# Altium schematic symbol library SoM_Artix.SchLib: 261 symbols (part 1 of 2)
Pins are listed as number, name and electrical type; pins without a type are passive.

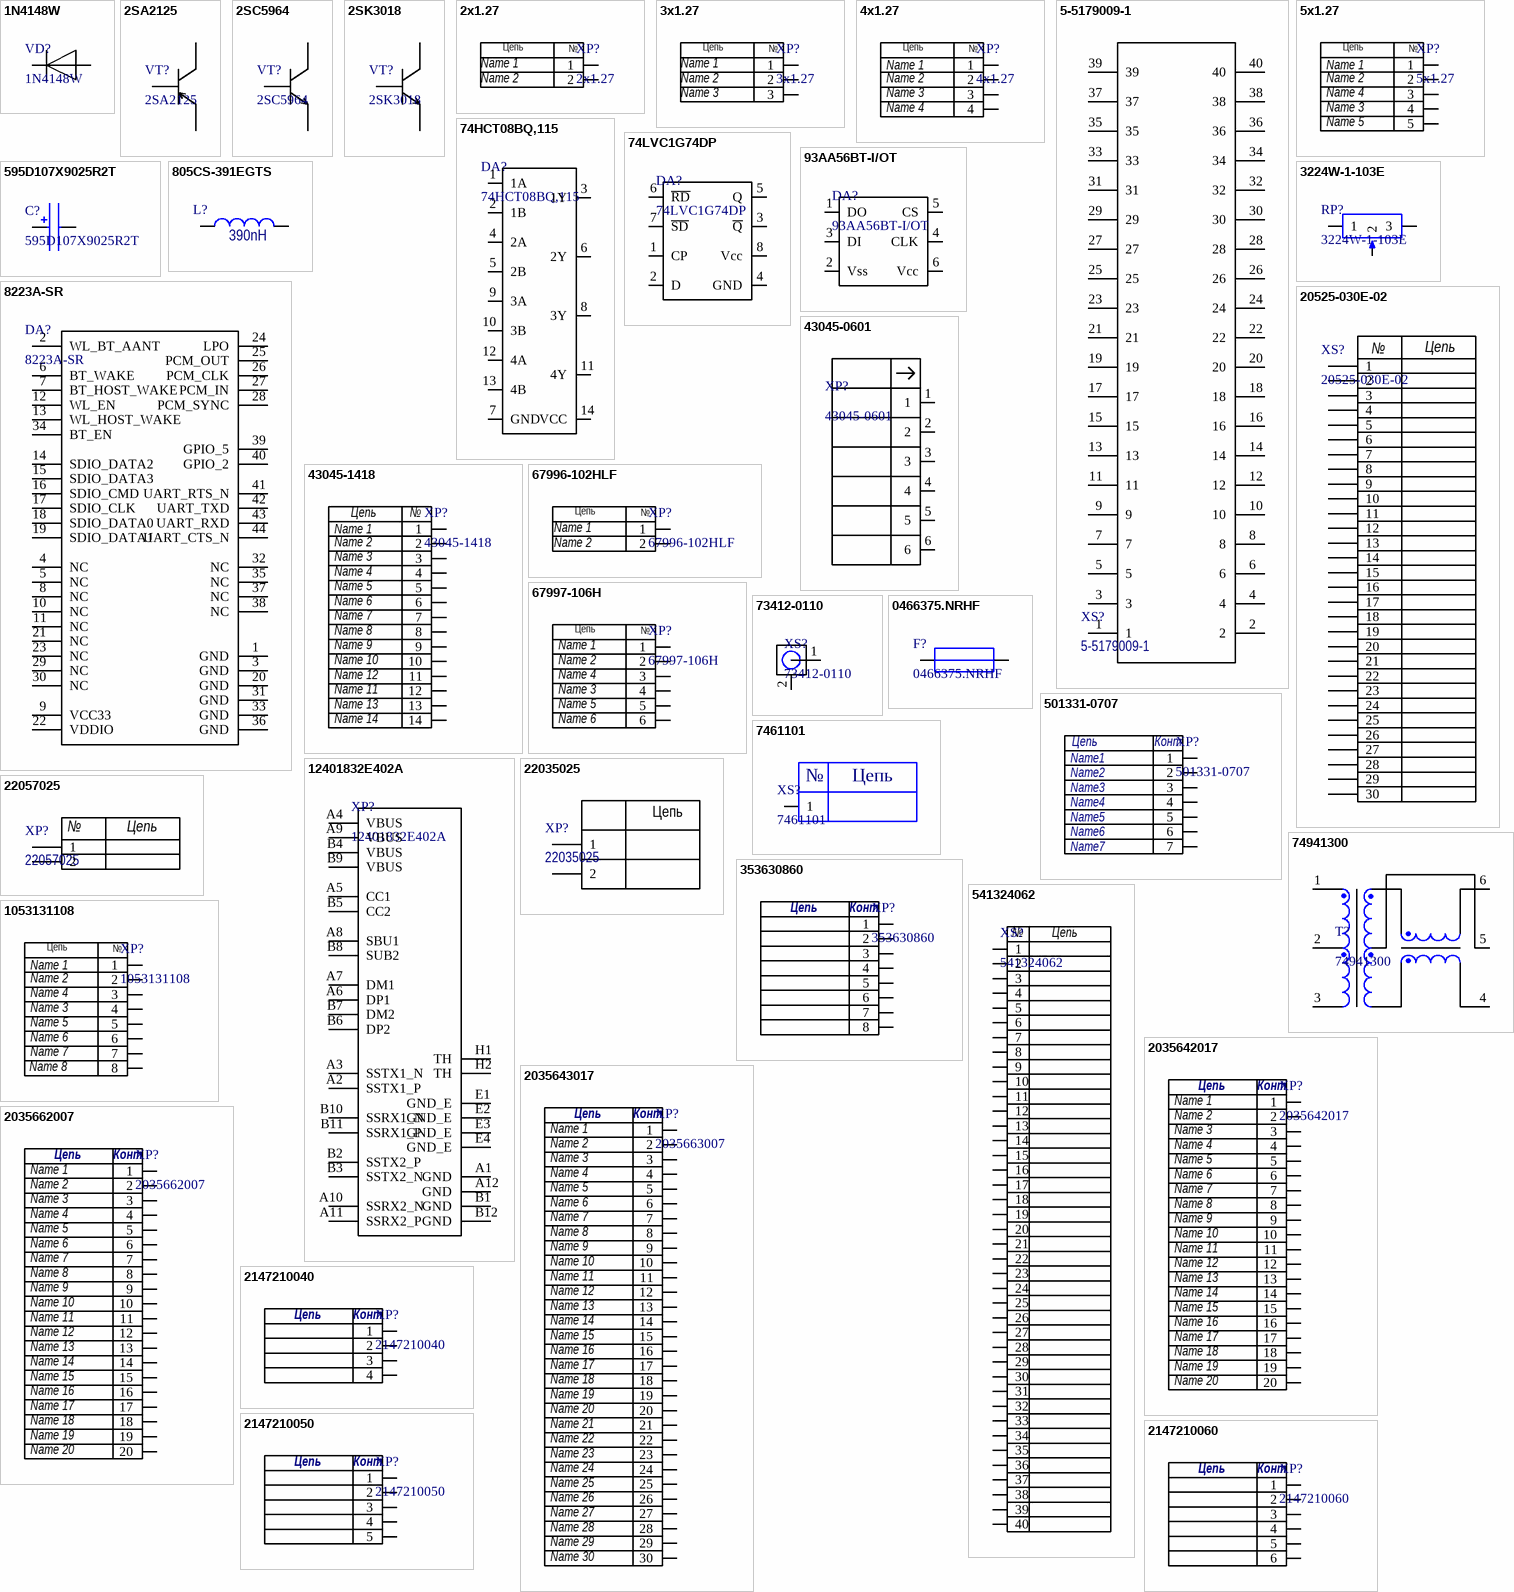
[diagram p0: symbols 1N4148W to 2147210060]

## 1N4148W
designator VD?
75V 400mW Single 1V@50mA 4ns 150mA SOD-123 Switching Diode
footprint SOD-123
pins: A, K

## 2SA2125
designator VT?
Bipolar Transistors - BJT DC-DC CONVERTER
footprint SOT-89-3
pins: 1 B, 2 C, 3 E

## 2SC5964
designator VT?
Bipolar Transistors - BJT Bipolar Transistor, (-)50V, (-)3A, Low VCE(sat), (PNP)NPN Single PCP
footprint SOT-89-3
pins: 1 B, 2 C, 3 E

## 2SK3018
designator VT?
Bipolar Transistors - BJT Bipolar Transistor, (-)50V, (-)3A, Low VCE(sat), (PNP)NPN Single PCP
footprint SOT-323
pins: 1 B, 2 E, 3 C

## 2x1.27
designator XP?  Parameter 1: Name 1  Parameter 2: Name 2
footprint 2X1.27
pins: 1, 2
text: Цепь; №

## 3x1.27
designator XP?  Parameter 1: Name 1  Parameter 2: Name 2  Parameter 3: Name 3
footprint 3X1.27
pins: 1, 2, 3
text: Цепь; №

## 4x1.27
designator XP?  Parameter 4: Name 4  Parameter 3: Name 3  Parameter 2: Name 2  Parameter 1: Name 1
footprint 4X1.27
pins: 1, 2, 3, 4
text: Цепь; №

## 5-5179009-1
designator XS?
Board to Board & Mezzanine Connectors 40P 9mm RECEPTACLE STACK HEIGHT 9-12mm
footprint 5-5179009-1
pins: 1, 2, 3, 4, 5, 6, 7, 8, 9, 10, 11, 12, 13, 14, 15, 16, 17, 18, 19, 20, 21, 22, 23, 24, 25, 26, 27, 28, 29, 30, 31, 32, 33, 34, 35, 36, 37, 38, 39, 40

## 5x1.27
designator XP?  Parameter 5: Name 5  Parameter 3: Name 3  Parameter 4: Name 4  Parameter 2: Name 2  Parameter 1: Name 1
footprint 5X1.27
pins: 1, 2, 3, 4, 5
text: Цепь; №

## 74HCT08BQ,115
designator DA?
The 74HC08; 74HCT08 is a quad 2-input AND gate. Inputs include clamp diodes. This enables the / use of current limiting resistors to interface inputs to voltages in excess of VCC.
footprint DHVQFN14
pins: 1 1A, 2 1B, 3 1Y, 4 2A, 5 2B, 6 2Y, 7 GND, 8 3Y, 9 3A, 10 3B, 11 4Y, 12 4A, 13 4B, 14 VCC

## 74LVC1G74DP
designator DA?
IC FF D-TYPE SNGL 1BIT 8TSSOP
footprint TSOP8 (SOT505-2)
pins: 1 CP, 2 D, 3 ~{Q}, 4 GND, 5 Q, 6 ~{RD}, 7 ~{SD}, 8 Vcc

## 93AA56BT-I/OT
designator DA?
IC EEPROM 2KBIT MIC WIRE SOT23-6
footprint SOT-23-6
pins: 1 DO, 2 Vss, 3 DI, 4 CLK, 5 CS, 6 Vcc

## 595D107X9025R2T
designator C?
100 µF Conformal Coated Tantalum Capacitors 25 V 2824 (7260 Metric) 200mOhm
footprint 595D107X9025R2T
pins: 1, 2

## 805CS-391EGTS
designator L?  value 390nH  (hidden comment: 805CS-391EGTS)
FIXED IND 390NH 290MA 1.5OHM SMD
footprint 0805CS-391EGTS
pins: 1, 2

## 3224W-1-103E
designator RP?
Trimmer Resistors - SMD 4mm 10Kohms 10% Square Cermet Sealed
footprint 3224W-1-103E
pins: 1, 2, 3

## 8223A-SR
designator DA?
IEEE 802.11a/b/g/n/ac WLAN with  Bluetooth 5 Combo Stamp Module
footprint AW-CM358SM
pins: 1 GND, 2 WL_BT_AANT, 3 GND, 4 NC, 5 NC, 6 BT_WAKE, 7 BT_HOST_WAKE, 8 NC, 9 VCC33, 10 NC, 11 NC, 12 WL_EN, 13 WL_HOST_WAKE, 14 SDIO_DATA2, 15 SDIO_DATA3, 16 SDIO_CMD, 17 SDIO_CLK, 18 SDIO_DATA0, 19 SDIO_DATA1, 20 GND, 21 NC, 22 VDDIO, 23 NC, 24 LPO, 25 PCM_OUT, 26 PCM_CLK, 27 PCM_IN, 28 PCM_SYNC, 29 NC, 30 NC, 31 GND, 32 NC, 33 GND, 34 BT_EN, 35 NC, 36 GND, 37 NC, 38 NC, 39 GPIO_5, 40 GPIO_2, 41 UART_RTS_N, 42 UART_TXD, 43 UART_RXD, 44 UART_CTS_N

## 20525-030E-02
designator XS?
0.4 mm pitch, Horizontal mating type Micro-coaxial connector with mechanical lock
footprint 20525-030E-02 (I-PEX)
pins: 1, 2, 3, 4, 5, 6, 7, 8, 9, 10, 11, 12, 13, 14, 15, 16, 17, 18, 19, 20, 21, 22, 23, 24, 25, 26, 27, 28, 29, 30
text: Цепь; №

## 43045-0601
designator XP?
CONN HEADER 6POS 2 ROWS 3MM R/A TIN
footprint 43045-0601
pins: 1, 2, 3, 4, 5, 6

## 43045-1418
designator XP?  Parameter 14: Name 14  Parameter 13: Name 13  Parameter 11: Name 11  Parameter 12: Name 12  Parameter 10: Name 10  Parameter 9: Name 9  Parameter 8: Name 8  Parameter 7: Name 7  Parameter 6: Name 6  Parameter 5: Name 5  Parameter 4: Name 4  Parameter 3: Name 3  Parameter 2: Name 2  Parameter 1: Name 1
Micro-Fit 3.0 Vertical Header, 3.00mm Pitch, Dual Row, 14 Circuits, with Solder Tab, Tin, Glow-Wire Capable, Black, Tape and Reel
footprint 43045-1418
pins: 1, 2, 3, 4, 5, 6, 7, 8, 9, 10, 11, 12, 13, 14
text: Цепь; №

## 67996-102HLF
designator XP?
Board to Board connector, Unshrouded vertical header, Through Hole, Double Row, 2 Positions, 2.54 mm (0.100in) Pitch; Name 2: Name 2; Name 1: Name 1
footprint 2X2.54
pins: 1, 2
text: Цепь; №

## 67997-106H
designator XP?  Parameter 6: Name 6  Parameter 5: Name 5  Parameter 3: Name 3  Parameter 4: Name 4  Parameter 2: Name 2  Parameter 1: Name 1
CONN HEADER VERT 6POS 2.54MM
footprint 67997-106H
pins: 1, 2, 3, 4, 5, 6
text: Цепь; №

## 73412-0110
designator XS?
50 Ohms, MCRF, PCB Vertical Jack Receptacle, SMT, 1.25mm Mounted Height
footprint 73412-0110 (Connector pigtail)
pins: 1, 2

## 0466375.NRHF
designator F?
466 Series 1206 Fast-Acting Fuse
footprint FUSE 1206
pins: 1, 2

## 501331-0707
designator XP?  Parameter 7: Name7  Parameter 6: Name6  Parameter 5: Name5  Parameter 4: Name4  Parameter 3: Name3  Parameter 2: Name2  Parameter 1: Name1
Headers & Wire Housings 1.0 WtB 7Ckt StrWaferAssyEmbsTpPk
footprint 501331-0707 (Headers & Wire Housings 1.0 WtB 7Ckt StrWaferAssyEmbsTpPk)
pins: 1, 2, 3, 4, 5, 6, 7
text: Цепь; Конт.

## 7461101
designator XS?
Terminals WP-RATR Pn-Plt 90Deg 6Pin 2Rw1.6Dia 100A
footprint КОНТАКТ 7461101
pins: 1
text: №; Цепь

## 12401832E402A
designator XP?
Surface Mount 24 Female Type-C SMD USB Connector
footprint USB-C
pins: A1 GND, A2 SSTX1_P, A3 SSTX1_N, A4 VBUS, A5 CC1, A6 DP1, A7 DM1, A8 SBU1, A9 VBUS, A10 SSRX2_N, A11 SSRX2_P, A12 GND, B1 GND, B2 SSTX2_P, B3 SSTX2_N, B4 VBUS, B5 CC2, B6 DP2, B7 DM2, B8 SUB2, B9 VBUS, B10 SSRX1_N, B11 SSRX1_P, B12 GND, E1 GND_E, E2 GND_E, E3 GND_E, E4 GND_E, H1 TH, H2 TH

## 22035025
designator XP?
2.50mm Pitch, Mini-SPOX PCB Header, Single Row, Vertical, Through Hole, Tin Plating, 2 Circuits, Bag, 3.50mm PC Tail Length
footprint 22035025 (2.50mm Pitch, Mini-SPOX PCB Header)
pins: 1, 2
text: Цепь

## 22057025
designator XP?
2.50mm Pitch, Mini-SPOX PCB Header, Single Row, Right-Angle, Through Hole, Tin Plating, 2 Circuits, Bag, 3.50mm PC Tail Length
footprint 22057025
pins: 1, 2
text: №; Цепь

## 74941300
designator T?
WE-BMS SMT TRANSFORMER -40C TO +
footprint 74941300
pins: 1, 2, 3, 4, 5, 6

## 353630860
designator XP?
2.00mm Pitch Sherlock Wire-to-Board Header, Right-Angle, with Positive Lock, 8 Circuits
footprint 353630860
pins: 1, 2, 3, 4, 5, 6, 7, 8
text: Цепь; Конт

## 541324062
designator XS?
Easy-On FFC/FPC Connector, 0.50mm Pitch, Slider Series, Right-Angle, Bottom Contact, 2.00mm Height, 40 Circuits, Gold Plating
footprint 541324062
pins: 1, 2, 3, 4, 5, 6, 7, 8, 9, 10, 11, 12, 13, 14, 15, 16, 17, 18, 19, 20, 21, 22, 23, 24, 25, 26, 27, 28, 29, 30, 31, 32, 33, 34, 35, 36, 37, 38, 39, 40
text: №; Цепь

## 1053131108
designator XP?  Parameter 6: Name 6  Parameter 7: Name 7  Parameter 8: Name 8  Parameter 5: Name 5  Parameter 3: Name 3  Parameter 4: Name 4  Parameter 2: Name 2  Parameter 1: Name 1
CONN HEADER R/A 8POS 2.5MM
footprint 1053131108
pins: 1, 2, 3, 4, 5, 6, 7, 8
text: Цепь; №

## 2035642017
designator XP?  Parameter 20: Name 20  Parameter 19: Name 19  Parameter 18: Name 18  Parameter 17: Name 17  Parameter 16: Name 16  Parameter 14: Name 15  Parameter 15: Name 14  Parameter 13: Name 13  Parameter 12: Name 12  Parameter 11: Name 11  Parameter 10: Name 10  Parameter 9: Name 9  Parameter 8: Name 8  Parameter 7: Name 7  Parameter 6: Name 6  Parameter 5: Name 5  Parameter 4: Name 4  Parameter 3: Name 3  Parameter 2: Name 2  Parameter 1: Name 1
1.00mm Pitch, Pico-Clasp PCB Header, Dual Row, Vertical, Surface Mount, 0.38µm Gold Plated, Inner Positive Lock, with Pick-and-Place Tape, 20 Circuits, Natural
footprint 2035642017 (1.00mm Pitch, Pico-Clasp PCB Header, Dual Row, Right-Angle, Surface Mount, 0.38µm Gold Plated, Inner Positive Lock, 20 Circuits, Natural)
pins: 1, 2, 3, 4, 5, 6, 7, 8, 9, 10, 11, 12, 13, 14, 15, 16, 17, 18, 19, 20
text: Цепь; Конт

## 2035643017
designator XP?, comment 2035663007  Parameter 21: Name 21  Parameter 22: Name 22  Parameter 23: Name 23  Parameter 24: Name 24  Parameter 25: Name 25  Parameter 26: Name 26  Parameter 27: Name 27  Parameter 28: Name 28  Parameter 29: Name 29  Parameter 30: Name 30  Parameter 20: Name 20  Parameter 19: Name 19  Parameter 18: Name 18  Parameter 17: Name 17  Parameter 16: Name 16  Parameter 14: Name 15  Parameter 15: Name 14  Parameter 13: Name 13  Parameter 12: Name 12  Parameter 11: Name 11  Parameter 10: Name 10  Parameter 9: Name 9  Parameter 8: Name 8  Parameter 7: Name 7  Parameter 6: Name 6  Parameter 5: Name 5  Parameter 4: Name 4  Parameter 3: Name 3  Parameter 2: Name 2  Parameter 1: Name 1
1.00mm Pitch, Pico-Clasp PCB Header, Dual Row, Right-Angle, Surface Mount, 0.38µm Gold Plated, Inner Positive Lock, 30 Circuits, Natural
footprint 2035663007
pins: 1, 2, 3, 4, 5, 6, 7, 8, 9, 10, 11, 12, 13, 14, 15, 16, 17, 18, 19, 20, 21, 22, 23, 24, 25, 26, 27, 28, 29, 30
text: Цепь; Конт

## 2035662007
designator XP?  Parameter 20: Name 20  Parameter 19: Name 19  Parameter 18: Name 18  Parameter 17: Name 17  Parameter 16: Name 16  Parameter 14: Name 15  Parameter 15: Name 14  Parameter 13: Name 13  Parameter 12: Name 12  Parameter 11: Name 11  Parameter 10: Name 10  Parameter 9: Name 9  Parameter 8: Name 8  Parameter 7: Name 7  Parameter 6: Name 6  Parameter 5: Name 5  Parameter 4: Name 4  Parameter 3: Name 3  Parameter 2: Name 2  Parameter 1: Name 1
1.00mm Pitch, Pico-Clasp PCB Header, Dual Row, Right-Angle, Surface Mount, 0.38µm Gold Plated, Inner Positive Lock, 20 Circuits, Natural
footprint 2035662007 (1.00mm Pitch, Pico-Clasp PCB Header, Dual Row, Right-Angle, Surface Mount, 0.38µm Gold Plated, Inner Positive Lock, 20 Circuits, Natural)
pins: 1, 2, 3, 4, 5, 6, 7, 8, 9, 10, 11, 12, 13, 14, 15, 16, 17, 18, 19, 20
text: Цепь; Конт

## 2147210040
designator XP?
Zero-Hachi Header, 0.80mm Pitch, Single Row, Right-Angle, Surface Mount, Matte Tin (Sn) Plating, Friction Lock, 4 Circuits
footprint 2147210040
pins: 1, 2, 3, 4
text: Цепь; Конт

## 2147210050
designator XP?
Zero-Hachi Header, 0.80mm Pitch, Single Row, Right-Angle, Surface Mount, Matte Tin (Sn) Plating, Friction Lock, 5 Circuits
footprint 2147210050
pins: 1, 2, 3, 4, 5
text: Цепь; Конт

## 2147210060
designator XP?
Zero-Hachi Header, 0.80mm Pitch, Single Row, Right-Angle, Surface Mount, Matte Tin (Sn) Plating, Friction Lock, 6 Circuits
footprint 2147210060
pins: 1, 2, 3, 4, 5, 6
text: Цепь; Конт

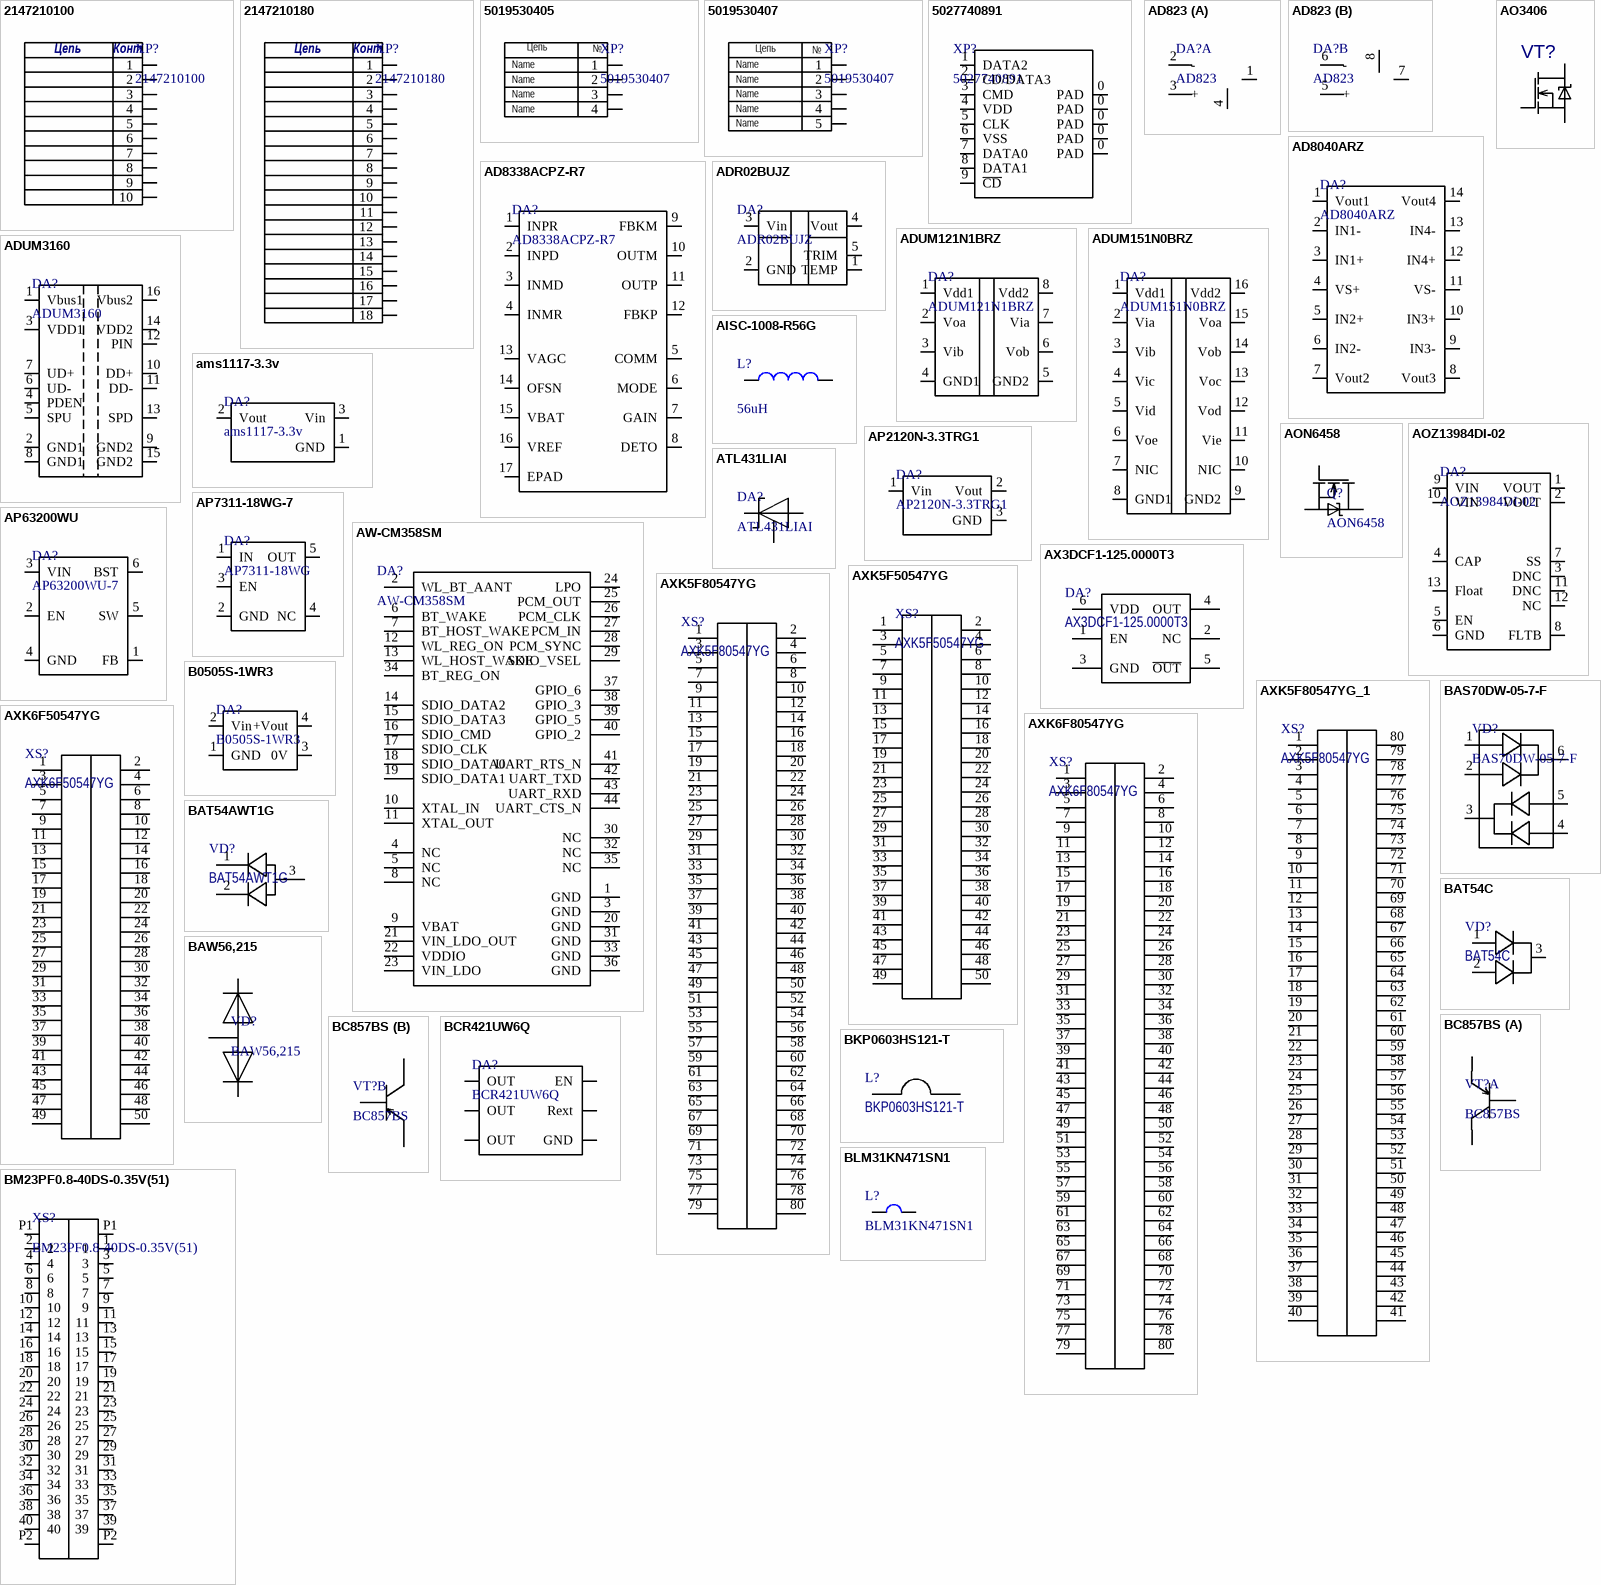
[diagram p1: symbols 2147210100 to BM23PF0.8-40DS-0.35V(51)]

## 2147210100
designator XP?
Zero-Hachi Header, 0.80mm Pitch, Single Row, Right-Angle, Surface Mount, Matte Tin (Sn) Plating, Friction Lock, 10 Circuits
footprint 2147210100
pins: 1, 2, 3, 4, 5, 6, 7, 8, 9, 10
text: Цепь; Конт

## 2147210180
designator XP?
Zero-Hachi Header, 0.80mm Pitch, Single Row, Right-Angle, Surface Mount, Matte Tin (Sn) Plating, Friction Lock, 18 Circuits
footprint 2147210180
pins: 1, 2, 3, 4, 5, 6, 7, 8, 9, 10, 11, 12, 13, 14, 15, 16, 17, 18
text: Цепь; Конт

## 5019530405
designator XP?, comment 5019530407  Parameter 4: Name
1.00mm Pitch, Pico-Clasp PCB Header, Single Row, Right-Angle, Surface Mount, 1.01µm Tin Plated, Outer Positive Lock, 4 Circuits, Natural; Parameter 3: Name; Parameter 2: Name; Parameter 1: Name
footprint 5019530405
pins: 1, 2, 3, 4
text: Цепь; №

## 5019530407
designator XP?  Parameter 5: Name
1.00mm Pitch, Pico-Clasp PCB Header, Single Row, Right-Angle, Surface Mount, 1.01µm Tin Plated, Outer Positive Lock, 5 Circuits, Natural; Parameter 4: Name; Parameter 3: Name; Parameter 2: Name; Parameter 1: Name
footprint 5019530505
pins: 1, 2, 3, 4, 5
text: Цепь; №

## 5027740891
designator XP?
microSD Memory Card Connector
footprint 5027740891
pins: 0 PAD, 0 PAD, 0 PAD, 0 PAD, 0 PAD, 1 DATA2, 2 CD/DATA3, 3 CMD, 4 VDD, 5 CLK, 6 VSS, 7 DATA0, 8 DATA1, 9 ~{CD}

## AD823
designator DA?
Dual, 16 MHz, Rail-to-Rail FET Input Amplifier
footprint SOIC-8 (6x5x1.75 mm)
part A pins: 1 OUT, 2 -, 3 +, 4 -Vs
part B pins: 5 +, 6 -, 7 OUT, 8 +Vs

## AD8040ARZ
designator DA?
High Speed Operational Amplifiers Quad Low Power R-R I/O Amp.
footprint SOIC-14
pins: 1 Vout1, 2 IN1-, 3 IN1+, 4 VS+, 5 IN2+, 6 IN2-, 7 Vout2, 8 Vout3, 9 IN3-, 10 IN3+, 11 VS-, 12 IN4+, 13 IN4-, 14 Vout4

## AD8338ACPZ-R7
designator DA?
IC VARIABLE GAIN 1 CIRC 16LFCSP
footprint AD8338ACPZ-R7
pins: 1 INPR, 2 INPD, 3 INMD, 4 INMR, 5 COMM, 6 MODE, 7 GAIN, 8 DETO, 9 FBKM, 10 OUTM, 11 OUTP, 12 FBKP, 13 VAGC, 14 OFSN, 15 VBAT, 16 VREF, 17 EPAD

## ADR02BUJZ
designator DA?
Series Voltage Reference IC Fixed 5V V ±0.06% 10 mA TSOT-23-5
footprint SOT-23-5
pins: 1 TEMP, 2 GND, 3 Vin, 4 Vout, 5 TRIM

## ADUM121N1BRZ
designator DA?
Dual-Channel Digital Isolators
footprint SOIC-8 (6x5x1.75 mm)
pins: 1 Vdd1, 2 Voa, 3 Vib, 4 GND1, 5 GND2, 6 Vob, 7 Via, 8 Vdd2

## ADUM151N0BRZ
designator DA?
3.0 kV RMS 5-Channel Digital Isolators
footprint SOIC-16Ti
pins: 1 Vdd1, 2 Via, 3 Vib, 4 Vic, 5 Vid, 6 Voe, 7 NIC, 8 GND1, 9 GND2, 10 NIC, 11 Vie, 12 Vod, 13 Voc, 14 Vob, 15 Voa, 16 Vdd2

## ADUM3160
designator DA?
Full/Low Speed 2.5 kV USB Digital Isolator
footprint SOIC-16
pins: 1 Vbus1, 2 GND1, 3 VDD1, 4 PDEN, 5 SPU, 6 UD-, 7 UD+, 8 GND1, 9 GND2, 10 DD+, 11 DD-, 12 PIN, 13 SPD, 14 VDD2, 15 GND2, 16 Vbus2

## AISC-1008-R56G
designator L?  value 56uH  (hidden comment: AISC-1008-R56G)
SMD Wire-Wound Chip Inductor (Ceramic or Ferrite Core)
footprint AISC-1008-R56G
pins: 1, 2

## ams1117-3.3v
designator DA?
1A Adjustable / Fixed Low Dropout Linear Regulator
footprint SOT-89-3
pins: 1 GND, 2 Vout, 3 Vin

## AO3406
designator VT?  (value not drawn)
30V N-Channel MOSFET; Component_ID: *
footprint SOT-23-3
pins: D, G, S

## AON6458
designator Q?
250V,14A N-Channel MOSFET
footprint DFN 5X6
pins: 1 S, 4 G, 5 D

## AOZ13984DI-02
designator DA?
ECPower™ Type C Protection Switch
footprint DFN 3x3 AOZ
pins: 1 VOUT, 2 VOUT, 3 DNC, 4 CAP, 5 EN, 6 GND, 7 SS, 8 FLTB, 9 VIN, 10 VIN, 11 DNC, 12 NC, 13 Float

## AP2120N-3.3TRG1
designator DA?
IC REG LINEAR 3.3V 150MA SOT23
footprint SOT-23-3 t
pins: 1 Vin, 2 Vout, 3 GND

## AP7311-18WG-7
designator DA?, comment AP7311-18WG
Linear Voltage Regulators 150mA null 1.8V positive 6V SOT-25
footprint SOT25
pins: 1 IN, 2 GND, 3 EN, 4 NC, 5 OUT

## AP63200WU
designator DA?, comment AP63200WU-7
Buck Switching Regulator IC Positive Adjustable 1.2V 1 Output 2A SOT-23-6 Thin, TSOT-23-6
footprint SOT-23-6
pins: 1 FB, 2 EN, 3 VIN, 4 GND, 5 SW, 6 BST

## ATL431LIAI
designator DA?
Voltage References Adjustable precision shunt regulator with optimized reference current (pin layout: KRA) 3-SOT-23 -40 to 85
footprint SOT-23-3
pins: D A, G K, S R

## AW-CM358SM
designator DA?
IEEE 802.11a/b/g/n/ac WLAN with  Bluetooth 5 Combo Stamp Module
footprint AW-CM358SM
pins: 1 GND, 2 WL_BT_AANT, 3 GND, 4 NC, 5 NC, 6 BT_WAKE, 7 BT_HOST_WAKE, 8 NC, 9 VBAT, 10 XTAL_IN, 11 XTAL_OUT, 12 WL_REG_ON, 13 WL_HOST_WAKE, 14 SDIO_DATA2, 15 SDIO_DATA3, 16 SDIO_CMD, 17 SDIO_CLK, 18 SDIO_DATA0, 19 SDIO_DATA1, 20 GND, 21 VIN_LDO_OUT, 22 VDDIO, 23 VIN_LDO, 24 LPO, 25 PCM_OUT, 26 PCM_CLK, 27 PCM_IN, 28 PCM_SYNC, 29 SDIO_VSEL, 30 NC, 31 GND, 32 NC, 33 GND, 34 BT_REG_ON, 35 NC, 36 GND, 37 GPIO_6, 38 GPIO_3, 39 GPIO_5, 40 GPIO_2, 41 UART_RTS_N, 42 UART_TXD, 43 UART_RXD, 44 UART_CTS_N

## AX3DCF1-125.0000T3
designator DA?
Standard Clock Oscillators MEMS Oscillator, High Perf, Single LVDS Output, -40C-85C, 25ppm
footprint AX3DCF1-125.0000T3
pins: 1 EN, 2 NC, 3 GND, 4 OUT, 5 ~{OUT}, 6 VDD

## AXK5F50547YG
designator XS?
0.5mm 2 50 Brick nogging SMD,P=0.5mm Mezzanine Connectors (Board to Board)
footprint AXK5F50547YG (Socket (Mated height: 2.5 mm))
pins: 1, 2, 3, 4, 5, 6, 7, 8, 9, 10, 11, 12, 13, 14, 15, 16, 17, 18, 19, 20, 21, 22, 23, 24, 25, 26, 27, 28, 29, 30, 31, 32, 33, 34, 35, 36, 37, 38, 39, 40, 41, 42 81, 43, 44 83, 45, 46 85, 47, 48 87, 49, 50 89

## AXK5F80547YG
designator XS?
0.5mm 2 80 Brick nogging SMD,P=0.5mm Mezzanine Connectors (Board to Board)
footprint AXK5F80547YG (Socket (Mated height: 1.5 mm, 2.0 mm, 2.5 mm))
pins: 1, 2, 3, 4, 5, 6, 7, 8, 9, 10, 11, 12, 13, 14, 15, 16, 17, 18, 19, 20, 21, 22, 23, 24, 25, 26, 27, 28, 29, 30, 31, 32, 33, 34, 35, 36, 37, 38, 39, 40, 41, 42 81, 43, 44 83, 45, 46 85, 47, 48 87, 49, 50 89, 51, 52 91, 53, 54 93, 55, 56 95, 57, 58 97, 59, 60 99, 61, 62 101, 63, 64 103, 65, 66 105, 67, 68 107, 69, 70 109, 71, 72 111, 73, 74 113, 75, 76 115, 77, 78 117, 79, 80 119

## AXK5F80547YG_1
designator XS?, comment AXK5F80547YG
0.5mm 2 80 Brick nogging SMD,P=0.5mm Mezzanine Connectors (Board to Board)
footprint AXK5F80547YG - duplicate (Socket (Mated height: 1.5 mm, 2.0 mm, 2.5 mm))
pins: 1, 2, 3, 4, 5, 6, 7, 8, 9, 10, 11, 12, 13, 14, 15, 16, 17, 18, 19, 20, 21, 22, 23, 24, 25, 26, 27, 28, 29, 30, 31, 32, 33, 34, 35, 36, 37, 38, 39, 40, 41, 42, 43, 44, 45, 46, 47, 48, 49, 50, 51, 52, 53, 54, 55, 56, 57, 58, 59, 60, 61, 62, 63, 64, 65, 66, 67, 68, 69, 70, 71, 72, 73, 74, 75, 76, 77, 78, 79, 80

## AXK6F50547YG
designator XS?
0.5mm 2 50 Brick nogging SMD,P=0.5mm Mezzanine Connectors (Board to Board)
footprint AXK6F50547YG (Socket (Mated height: 2.5 mm))
pins: 1, 2, 3, 4, 5, 6, 7, 8, 9, 10, 11, 12, 13, 14, 15, 16, 17, 18, 19, 20, 21, 22, 23, 24, 25, 26, 27, 28, 29, 30, 31, 32, 33, 34, 35, 36, 37, 38, 39, 40, 41, 42 81, 43, 44 83, 45, 46 85, 47, 48 87, 49, 50 89

## AXK6F80547YG
designator XS?
0.5mm 2 80 Brick nogging SMD,P=0.5mm Mezzanine Connectors (Board to Board)
footprint AXK6F80547YG (Socket (Mated height: 23 mm, 3.3 mm, 2.5 mm))
pins: 1, 2, 3, 4, 5, 6, 7, 8, 9, 10, 11, 12, 13, 14, 15, 16, 17, 18, 19, 20, 21, 22, 23, 24, 25, 26, 27, 28, 29, 30, 31, 32, 33, 34, 35, 36, 37, 38, 39, 40, 41, 42 81, 43, 44 83, 45, 46 85, 47, 48 87, 49, 50 89, 51, 52 91, 53, 54 93, 55, 56 95, 57, 58 97, 59, 60 99, 61, 62 101, 63, 64 103, 65, 66 105, 67, 68 107, 69, 70 109, 71, 72 111, 73, 74 113, 75, 76 115, 77, 78 117, 79, 80 119

## B0505S-1WR3
designator DA?
1W, Fixed input voltage, isolated & unregulated single / output
footprint B0505S-1WR3
pins: 1 GND, 2 Vin, 3 0V, 4 +Vout

## BAS70DW-05-7-F
designator VD?
SURFACE MOUNT SCHOTTKY BARRIER DIODE ARRAYS
footprint SOT363
pins: 1, 2, 3, 4, 5, 6

## BAT54AWT1G
designator VD?
Schottky Diodes & Rectifiers 30V 225mW Dual Common Anode
footprint SOT-323
pins: 1 K, 2 K, 3 A

## BAT54C
designator VD?
Schottky Diodes & Rectifiers 30V 225mW Dual Common Anode
footprint SOT-323
pins: 1 K, 2 K, 3 A

## BAW56,215
designator VD?
Diodes - General Purpose, Power, Switching BAW56/SOT23/TO-236AB
footprint SOT-23-3 t
pins: 1, 2, 3

## BC857BS
designator VT?
45V DUAL PNP SMALL SIGNAL SURFACE MOUNT TRANSISTOR
footprint SOT363
part A pins: 1 E, 2 B, 6 C
part B pins: 3 C, 4 E, 5 B

## BCR421UW6Q
designator DA?
LINEAR LED CONSTANT CURRENT REGULATOR
footprint SOT-23-6
pins: 1 EN, 2 OUT, 3 OUT, 4 GND, 5 OUT, 6 Rext

## BKP0603HS121-T
designator L?
Ferrite Beads HI CUR LW RDC 0201 120 OHM 25%
footprint Beam 0201 (0603) (Ferrite Beam)
pins: 1, 2

## BLM31KN471SN1
designator L?
Chip Ferrite Bead
footprint BLM31KN471SN1
pins: 1, 2

## BM23PF0.8-40DS-0.35V(51)
designator XS?
40 Position Connector Receptacle, Center Strip Contacts Surface Mount Gold
footprint BM23PF0.8-40DS-0.35V(51)
pins: 1, 2, 3, 4, 5, 6, 7, 8, 9, 10, 11, 12, 13, 14, 15, 16, 17, 18, 19, 20, 21, 22, 23, 24, 25, 26, 27, 28, 29, 30, 31, 32, 33, 34, 35, 36, 37, 38, 39, 40, P1, P1, P2, P2

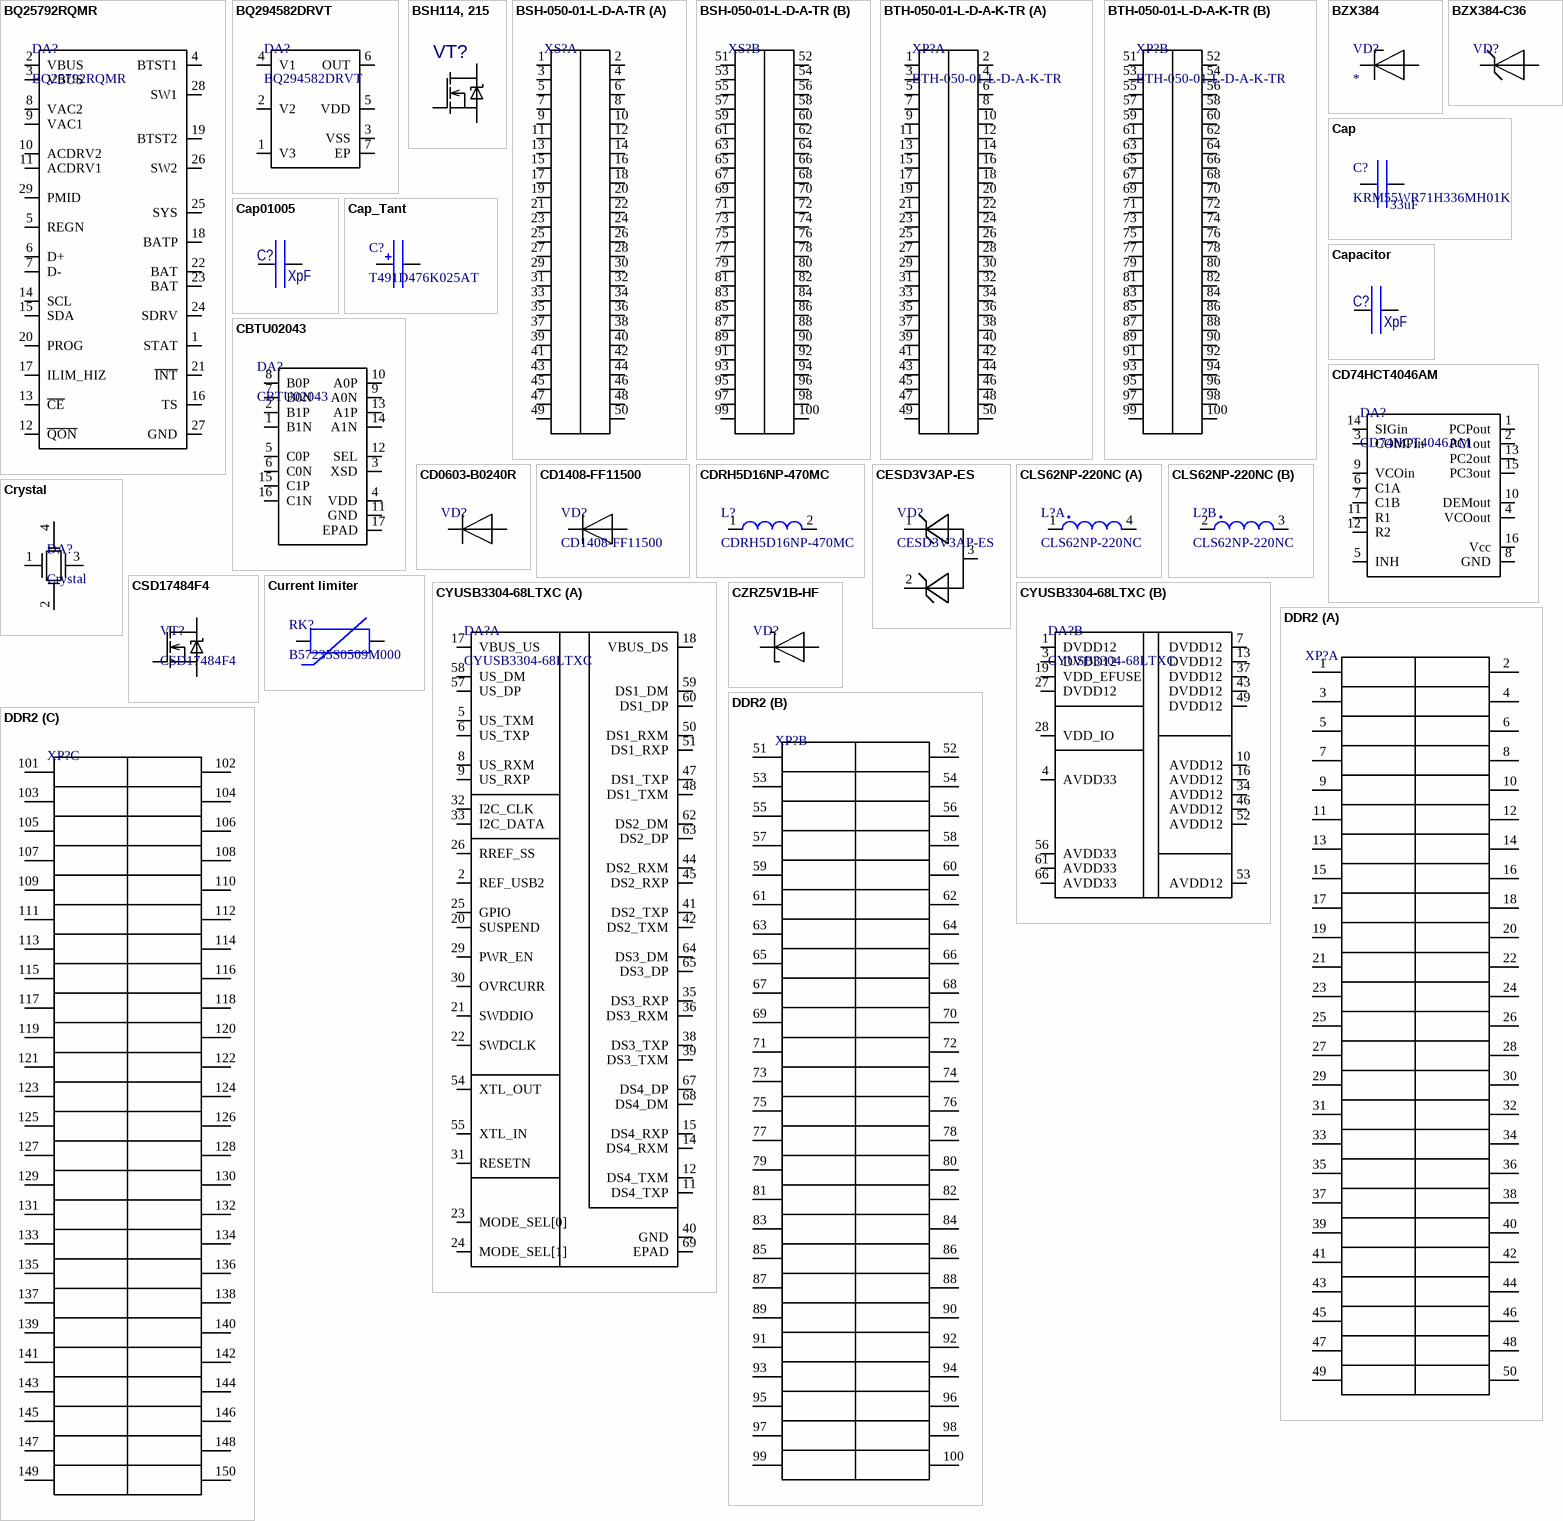
[diagram p2: symbols BQ25792RQMR to DDR2]

## BQ25792RQMR
designator DA?
I2C CONTROLLED, 5-A, 1-4 CELL BU
footprint BQ25792RQMR
pins: 1 STAT, 2 VBUS, 3 VBUS, 4 BTST1, 5 REGN, 6 D+, 7 D-, 8 VAC2, 9 VAC1, 10 ACDRV2, 11 ACDRV1, 12 ~{QON}, 13 ~{CE}, 14 SCL, 15 SDA, 16 TS, 17 ILIM_HIZ, 18 BATP, 19 BTST2, 20 PROG, 21 ~{INT}, 22 BAT, 23 BAT, 24 SDRV, 25 SYS, 26 SW2, 27 GND, 28 SW1, 29 PMID

## BQ294582DRVT
designator DA?
Lithium-Ion/Polymer 2~3 WSON-6-EP(2x2)  Battery Management ROHS
footprint WSON-6
pins: 1 V3, 2 V2, 3 VSS, 4 V1, 5 VDD, 6 OUT, 7 EP

## BSH114, 215
designator VT?  (value not drawn)
MOSFET TAPE7 PWR-MO; Component_ID: *
footprint SOT-23-3 t
pins: 1, 2, 3

## BSH-050-01-L-D-A-TR
designator XS?  (value not drawn)
0.50 mm Basic Blade & Beam Socket Strip
footprint BSH-050-01-L-D-A-TR
part A pins: 1, 2, 3, 4, 5, 6, 7, 8, 9, 10, 11, 12, 13, 14, 15, 16, 17, 18, 19, 20, 21, 22, 23, 24, 25, 26, 27, 28, 29, 30, 31, 32, 33, 34, 35, 36, 37, 38, 39, 40, 41, 42, 43, 44, 45, 46, 47, 48, 49, 50
part B pins: 51, 52, 53, 54, 55, 56, 57, 58, 59, 60, 61, 62, 63, 64, 65, 66, 67, 68, 69, 70, 71, 72, 73, 74, 75, 76, 77, 78, 79, 80, 81, 82, 83, 84, 85, 86, 87, 88, 89, 90, 91, 92, 93, 94, 95, 96, 97, 98, 99, 100

## BTH-050-01-L-D-A-K-TR
designator XP?
0.50 mm Basic Blade & Beam Terminal Strip
footprint BTH-050-01-L-D-A-K-TR
part A pins: 1, 2, 3, 4, 5, 6, 7, 8, 9, 10, 11, 12, 13, 14, 15, 16, 17, 18, 19, 20, 21, 22, 23, 24, 25, 26, 27, 28, 29, 30, 31, 32, 33, 34, 35, 36, 37, 38, 39, 40, 41, 42, 43, 44, 45, 46, 47, 48, 49, 50
part B pins: 51, 52, 53, 54, 55, 56, 57, 58, 59, 60, 61, 62, 63, 64, 65, 66, 67, 68, 69, 70, 71, 72, 73, 74, 75, 76, 77, 78, 79, 80, 81, 82, 83, 84, 85, 86, 87, 88, 89, 90, 91, 92, 93, 94, 95, 96, 97, 98, 99, 100

## BZX384
designator VD?
footprint SOD323
pins: A, K

## BZX384-C36
designator VD?  (value not drawn)
Zener Diode SOD-323 Package 36V
footprint SOD323
pins: A, K

## Cap
designator C?, comment KRM55WR71H336MH01K  value 33uF
33uF X7R 50V 20%
footprint KRM55WR71H336MH01K
footprint Cap_1808
pins: 1, 2

## Cap01005
designator C?  value XpF
Distributor: Digi-Key
footprint CAP_01005
pins: 1, 2

## Cap_Tant
designator C?, comment T491D476K025AT
Tantalum Capacitors - Solid SMD 25V 47uF 2917 10% ESR=700 mOhms
footprint Tant_D
pins: 1, 2

## Capacitor
designator C?  value XpF
Distributor: Digi-Key
footprint Cap_0201
footprint CAP_1812
pins: 1, 2

## CBTU02043
designator DA?
High-speed differential 1-to-2 switch
footprint HUQFN16 (1.6x2.4x0.5 mm)
pins: 1 B1N, 2 B1P, 3 XSD, 4 VDD, 5 C0P, 6 C0N, 7 B0N, 8 B0P, 9 A0N, 10 A0P, 11 GND, 12 SEL, 13 A1P, 14 A1N, 15 C1P, 16 C1N, 17 EPAD

## CD74HCT4046AM
designator DA?
Phase Locked Loops - PLL PLL w/ VCO
footprint SOIC-16Ti
pins: 1 PCPout, 2 PC1out, 3 COMPin, 4 VCOout, 5 INH, 6 C1A, 7 C1B, 8 GND, 9 VCOin, 10 DEMout, 11 R1, 12 R2, 13 PC2out, 14 SIGin, 15 PC3out, 16 Vcc

## CD0603-B0240R
designator VD?  (value not drawn)
Schottky Diodes & Rectifiers 0603 40V 0.2A
footprint CD0603-B0240R
pins: 1 C, 2 A

## CD1408-FF11500
designator VD?
Rectifiers CHIP DIODE
footprint SOD-87
pins: A, K

## CDRH5D16NP-470MC
designator L?
600mA 47uH ±20% 680mA - Power Inductors ROHS
footprint CDRH5D16NP-470MC
pins: 1, 2

## CESD3V3AP-ES
designator VD?
Uni-direction ESD Protection Diode
footprint SOT-23-3 t
pins: 1, 2, 3

## CLS62NP-220NC
designator L?
22 µH Shielded Inductor 468 mA 355mOhm Max 4-SMD
footprint CLS62NP-220NC
part A pins: 1, 4
part B pins: 2, 3

## Crystal
designator DA?
footprint Crystal 5032
pins: 1, 2, 3, 4

## CSD17484F4
designator VT?
CSD17484F4 30-V N-Channel FemtoFET™ MOSFET
footprint CSD17484F4
pins: D, G, S

## Current limiter
designator RK?, comment B57235S0509M000
footprint Current limiter
pins: 1, 2

## CYUSB3304-68LTXC
designator DA?
USB Interface IC HX3 USB 3.0 Hub 4 Ports 3V
footprint QFN68
part A pins: 2 REF_USB2, 5 US_TXM, 6 US_TXP, 8 US_RXM, 9 US_RXP, 11 DS4_TXP, 12 DS4_TXM, 14 DS4_RXM, 15 DS4_RXP, 17 VBUS_US, 18 VBUS_DS, 20 SUSPEND, 21 SWDDIO, 22 SWDCLK, 23 MODE_SEL[0], 24 MODE_SEL[1], 25 GPIO, 26 RREF_SS, 29 PWR_EN, 30 OVRCURR, 31 RESETN, 32 I2C_CLK, 33 I2C_DATA, 35 DS3_RXP, 36 DS3_RXM, 38 DS3_TXP, 39 DS3_TXM, 40 GND, 41 DS2_TXP, 42 DS2_TXM, 44 DS2_RXM, 45 DS2_RXP, 47 DS1_TXP, 48 DS1_TXM, 50 DS1_RXM, 51 DS1_RXP, 54 XTL_OUT, 55 XTL_IN, 57 US_DP, 58 US_DM, 59 DS1_DM, 60 DS1_DP, 62 DS2_DM, 63 DS2_DP, 64 DS3_DM, 65 DS3_DP, 67 DS4_DP, 68 DS4_DM, 69 EPAD
part B pins: 1 DVDD12, 3 DVDD12, 4 AVDD33, 7 DVDD12, 10 AVDD12, 13 DVDD12, 16 AVDD12, 19 VDD_EFUSE, 27 DVDD12, 28 VDD_IO, 34 AVDD12, 37 DVDD12, 43 DVDD12, 46 AVDD12, 49 DVDD12, 52 AVDD12, 53 AVDD12, 56 AVDD33, 61 AVDD33, 66 AVDD33

## CZRZ5V1B-HF
designator VD?  (value not drawn)
DIODE ZENER 5.1V 100MW 0201
footprint DFN0603
pins: A, K

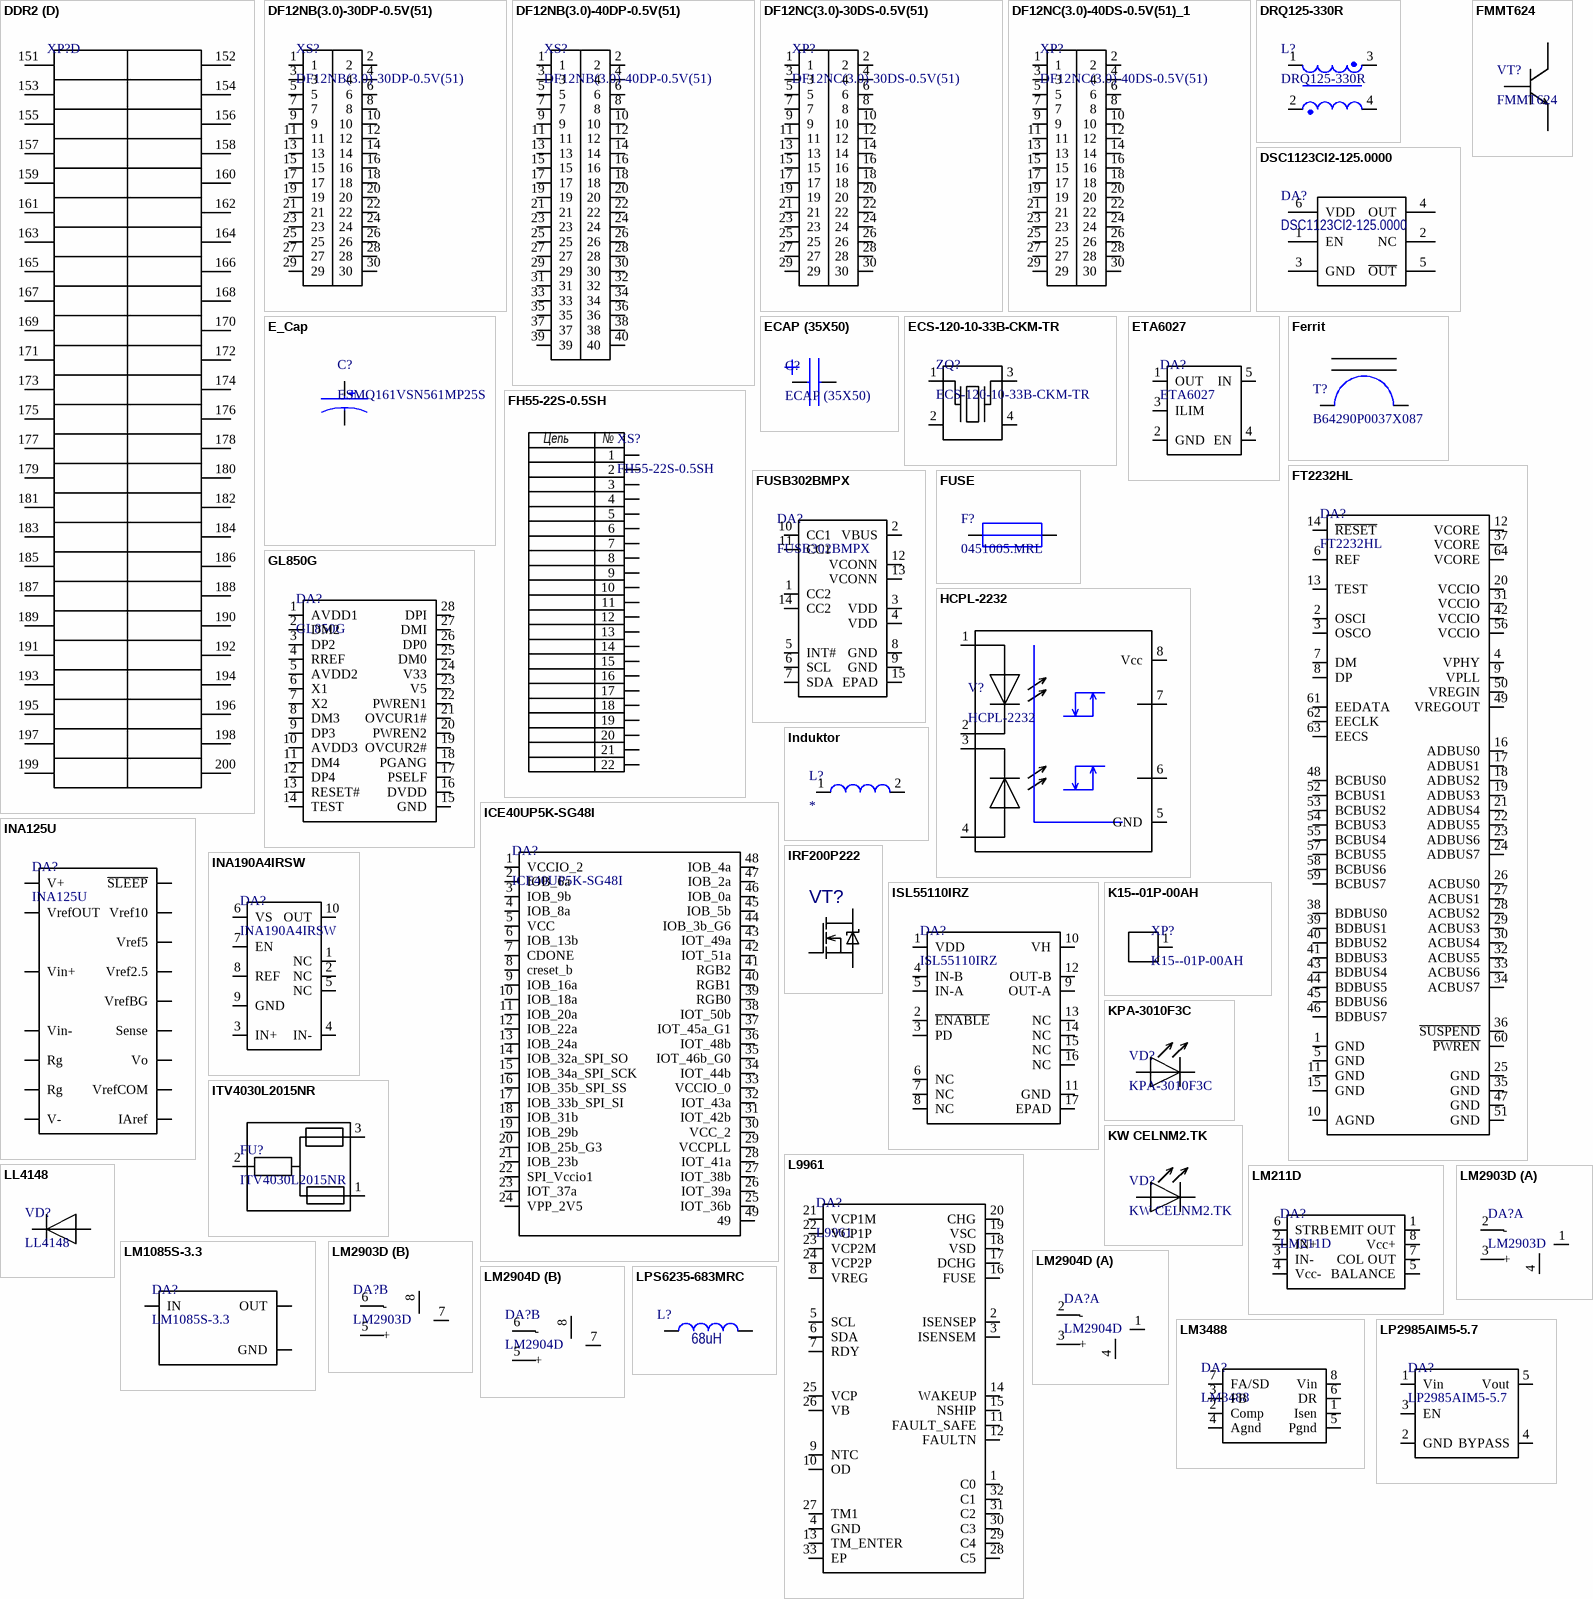
[diagram p3: symbols DDR2 to LPS6235-683MRC]

## DDR2
designator XP?
footprint DDR2
part A pins: 1, 2, 3, 4, 5, 6, 7, 8, 9, 10, 11, 12, 13, 14, 15, 16, 17, 18, 19, 20, 21, 22, 23, 24, 25, 26, 27, 28, 29, 30, 31, 32, 33, 34, 35, 36, 37, 38, 39, 40, 41, 42, 43, 44, 45, 46, 47, 48, 49, 50
part B pins: 51, 52, 53, 54, 55, 56, 57, 58, 59, 60, 61, 62, 63, 64, 65, 66, 67, 68, 69, 70, 71, 72, 73, 74, 75, 76, 77, 78, 79, 80, 81, 82, 83, 84, 85, 86, 87, 88, 89, 90, 91, 92, 93, 94, 95, 96, 97, 98, 99, 100
part C pins: 101, 102, 103, 104, 105, 106, 107, 108, 109, 110, 111, 112, 113, 114, 115, 116, 117, 118, 119, 120, 121, 122, 123, 124, 125, 126, 127, 128, 129, 130, 131, 132, 133, 134, 135, 136, 137, 138, 139, 140, 141, 142, 143, 144, 145, 146, 147, 148, 149, 150
part D pins: 151, 152, 153, 154, 155, 156, 157, 158, 159, 160, 161, 162, 163, 164, 165, 166, 167, 168, 169, 170, 171, 172, 173, 174, 175, 176, 177, 178, 179, 180, 181, 182, 183, 184, 185, 186, 187, 188, 189, 190, 191, 192, 193, 194, 195, 196, 197, 198, 199, 200

## DF12NB(3.0)-30DP-0.5V(51)
designator XS?
Board to Board & Mezzanine Connectors CONN HDR 30POS SMD G
footprint DF12NB(3.0)-30DP-0.5V(51)
pins: 1, 2, 3, 4, 5, 6, 7, 8, 9, 10, 11, 12, 13, 14, 15, 16, 17, 18, 19, 20, 21, 22, 23, 24, 25, 26, 27, 28, 29, 30

## DF12NB(3.0)-40DP-0.5V(51)
designator XS?
Board to Board & Mezzanine Connectors CONN HDR 40POS SMD G
footprint DF12NB(3.0)-40DP-0.5V(51)
pins: 1, 2, 3, 4, 5, 6, 7, 8, 9, 10, 11, 12, 13, 14, 15, 16, 17, 18, 19, 20, 21, 22, 23, 24, 25, 26, 27, 28, 29, 30, 31, 32, 33, 34, 35, 36, 37, 38, 39, 40

## DF12NC(3.0)-30DS-0.5V(51)
designator XP?
Board to Board & Mezzanine Connectors CONN RCPT 30POS SMD
footprint DF12NB(3.0)-30DS-0.5V(51)
pins: 1, 2, 3, 4, 5, 6, 7, 8, 9, 10, 11, 12, 13, 14, 15, 16, 17, 18, 19, 20, 21, 22, 23, 24, 25, 26, 27, 28, 29, 30

## DF12NC(3.0)-40DS-0.5V(51)_1
designator XP?, comment DF12NC(3.0)-40DS-0.5V(51)
Board to Board & Mezzanine Connectors CONN RCPT 40POS SMD
pins: 1, 2, 3, 4, 5, 6, 7, 8, 9, 10, 11, 12, 13, 14, 15, 16, 17, 18, 19, 20, 21, 22, 23, 24, 25, 26, 27, 28, 29, 30

## DRQ125-330R
designator L?
footprint DRQ125 (Coil)
pins: 1, 2, 3, 4

## DSC1123CI2-125.0000
designator DA?
Standard Clock Oscillators MEMS Oscillator, High Perf, Single LVDS Output, -40C-85C, 25ppm
footprint VDFN
pins: 1 EN, 2 NC, 3 GND, 4 OUT, 5 ~{OUT}, 6 VDD

## E_Cap
designator C?, comment ESMQ161VSN561MP25S
Aluminium Electrolytic Capacitors - Snap In 560uF 160 Volt
footprint Electrolytyk cap 22x25
pins: 1, 2

## ECAP (35X50)
designator C?
10000 мкФ, 80 В, 105°C, 20% snap in 35x50
footprint ECAP (35X50)
pins: 1 A "Positive", 2 K "Negative"

## ECS-120-10-33B-CKM-TR
designator ZQ?
CRYSTAL 12.0000MHZ 10PF SMD
footprint ECS-120-10-33B-CKM-TR
pins: 1, 2, 3, 4

## ETA6027
designator DA?
Programmable Current-Limited Load Switch
footprint SOT-23-5
pins: 1 OUT, 2 GND, 3 ILIM, 4 EN, 5 IN

## Ferrit
designator T?, comment B64290P0037X087
Сердечник N87 R6,3x3,8x2,5
footprint Ferrite
pins: 1, 2

## FH55-22S-0.5SH
designator XS?
footprint FH55-22S-0.5SH
pins: 1, 2, 3, 4, 5, 6, 7, 8, 9, 10, 11, 12, 13, 14, 15, 16, 17, 18, 19, 20, 21, 22
text: Цепь; №

## FMMT624
designator VT?
Bipolar Transistors - BJT NPN SuperSOT
footprint SOT-23-3 t
pins: 1 B, 2 E, 3 C

## FT2232HL
designator DA?
IC USB HS DUAL UART/FIFO 64-LQFP
footprint LQFP-64
pins: 1 GND, 2 OSCI, 3 OSCO, 4 VPHY, 5 GND, 6 REF, 7 DM, 8 DP, 9 VPLL, 10 AGND, 11 GND, 12 VCORE, 13 TEST, 14 ~{RESET}, 15 GND, 16 ADBUS0, 17 ADBUS1, 18 ADBUS2, 19 ADBUS3, 20 VCCIO, 21 ADBUS4, 22 ADBUS5, 23 ADBUS6, 24 ADBUS7, 25 GND, 26 ACBUS0, 27 ACBUS1, 28 ACBUS2, 29 ACBUS3, 30 ACBUS4, 31 VCCIO, 32 ACBUS5, 33 ACBUS6, 34 ACBUS7, 35 GND, 36 ~{SUSPEND}, 37 VCORE, 38 BDBUS0, 39 BDBUS1, 40 BDBUS2, 41 BDBUS3, 42 VCCIO, 43 BDBUS4, 44 BDBUS5, 45 BDBUS6, 46 BDBUS7, 47 GND, 48 BCBUS0, 49 VREGOUT, 50 VREGIN, 51 GND, 52 BCBUS1, 53 BCBUS2, 54 BCBUS3, 55 BCBUS4, 56 VCCIO, 57 BCBUS5, 58 BCBUS6, 59 BCBUS7, 60 ~{PWREN}, 61 EEDATA, 62 EECLK, 63 EECS, 64 VCORE

## FUSB302BMPX
designator DA?
Programmable USB Type‐C Controller w/PD / WQFN14
footprint WQFN14 (2.5x2.5x0.75 mm)
pins: 1 CC2, 2 VBUS, 3 VDD, 4 VDD, 5 INT#, 6 SCL, 7 SDA, 8 GND, 9 GND, 10 CC1, 11 CC1, 12 VCONN, 13 VCONN, 14 CC2, 15 EPAD

## FUSE
designator F?, comment 0451005.MRL
Surface Mount Fuses 125VAC 5A .0125ohms
footprint FUSE
pins: 1, 2

## GL850G
designator DA?
USB 2.0 Hub Controller
footprint SSOP-28
pins: 1 AVDD1, 2 DM2, 3 DP2, 4 RREF, 5 AVDD2, 6 X1, 7 X2, 8 DM3, 9 DP3, 10 AVDD3, 11 DM4, 12 DP4, 13 RESET#, 14 TEST, 15 GND, 16 DVDD, 17 PSELF, 18 PGANG, 19 OVCUR2#, 20 PWREN2, 21 OVCUR1#, 22 PWREN1, 23 V5, 24 V33, 25 DM0, 26 DP0, 27 DMI, 28 DPI

## HCPL-2232
designator V?
High Speed Optocouplers 5MBd 2Ch 1.8mA
footprint PDIP-8
pins: 1 A1, 2 K1, 3 K2, 4 A2, 5 GND, 6 Vo2, 7 Vo1, 8 Vcc

## ICE40UP5K-SG48I
designator DA?
iCE40 UltraPlus™ Field Programmable Gate Array (FPGA) IC 39 1171456 5280 48-VFQFN Exposed Pad
footprint QFN48 (6x6mm)
pins: 1 VCCIO_2, 2 IOB_6a, 3 IOB_9b, 4 IOB_8a, 5 VCC, 6 IOB_13b, 7 CDONE, 8 creset_b, 9 IOB_16a, 10 IOB_18a, 11 IOB_20a, 12 IOB_22a, 13 IOB_24a, 14 IOB_32a_SPI_SO, 15 IOB_34a_SPI_SCK, 16 IOB_35b_SPI_SS, 17 IOB_33b_SPI_SI, 18 IOB_31b, 19 IOB_29b, 20 IOB_25b_G3, 21 IOB_23b, 22 SPI_Vccio1, 23 IOT_37a, 24 VPP_2V5, 25 IOT_36b, 26 IOT_39a, 27 IOT_38b, 28 IOT_41a, 29 VCCPLL, 30 VCC_2, 31 IOT_42b, 32 IOT_43a, 33 VCCIO_0, 34 IOT_44b, 35 IOT_46b_G0, 36 IOT_48b, 37 IOT_45a_G1, 38 IOT_50b, 39 RGB0, 40 RGB1, 41 RGB2, 42 IOT_51a, 43 IOT_49a, 44 IOB_3b_G6, 45 IOB_5b, 46 IOB_0a, 47 IOB_2a, 48 IOB_4a, 49

## INA125U
designator DA?
INSTRUMENTATION AMPLIFIER / With Precision Voltage Reference
footprint SOIC-16
pins: 1 V+, 2 ~{SLEEP}, 3 V-, 4 VrefOUT, 5 IAref, 6 Vin+, 7 Vin-, 8 Rg, 9 Rg, 10 Vo, 11 Sense, 12 VrefCOM, 13 VrefBG, 14 Vref2.5, 15 Vref5, 16 Vref10

## INA190A4IRSW
designator DA?
40-V, bidirectional, ultraprecise current sense amplifier with picoamp IB & ENABLE
footprint UQFN-10
pins: 1 NC, 2 NC, 3 IN+, 4 IN-, 5 NC, 6 VS, 7 EN, 8 REF, 9 GND, 10 OUT

## Induktor
designator L?
pins: 1, 2

## IRF200P222
designator VT?  (value not drawn)
MOSFET  StrongIRFET; Component_ID: *
footprint TO-247AC
pins: 1, 2, 3

## ISL55110IRZ
designator DA?
Gate Drivers W/ANNEAL ULTRASOUND DRVR 16LD 4X4
footprint LQFP-16-4X4
pins: 1 VDD, 2 ~{ENABLE}, 3 PD, 4 IN-B, 5 IN-A, 6 NC, 7 NC, 8 NC, 9 OUT-A, 10 VH, 11 GND, 12 OUT-B, 13 NC, 14 NC, 15 NC, 16 NC, 17 EPAD

## ITV4030L2015NR
designator FU?
- Disposable fuses ROHS
footprint ITV4030L2015NR
pins: 1, 2, 3

## K15--01P-00AH
designator XP?
Клемма винтовая, угловая, 1 контакт, М3.5
footprint K15--01P-00AH
pins: 1

## KPA-3010F3C
designator VD?
3.0 mm x 1.0 mm Right Angle Infrared Emitting Diode
footprint KPA-3010F3C
pins: A, K

## KW CELNM2.TK
designator VD?
Compact light source with isolated thermal pad for improved heat dissipation and small z-tolerance (+/- 35 µm). The OSLON Compact PL product family meets both excellent brightness in combination with outstanding luminance.
footprint KW CELNM2.TK
pins: A, C

## L9961
designator DA?
Lithium-Ion/Polymer 3~5 VFQFPN-32(5x5)  Battery Management ROHS
footprint VFQFPN 32 (5x5)
pins: 1 C0, 2 ISENSEP, 3 ISENSEM, 4 GND, 5 SCL, 6 SDA, 7 RDY, 8 VREG, 9 NTC, 10 OD, 11 FAULT_SAFE, 12 FAULTN, 13 TM_ENTER, 14 WAKEUP, 15 NSHIP, 16 FUSE, 17 DCHG, 18 VSD, 19 VSC, 20 CHG, 21 VCP1M, 22 VCP1P, 23 VCP2M, 24 VCP2P, 25 VCP, 26 VB, 27 TM1, 28 C5, 29 C4, 30 C3, 31 C2, 32 C1, 33 EP

## LL4148
designator VD?
Diodes - General Purpose, Power, Switching Small Signal Diode
footprint SOD-80
pins: A, K

## LM211D
designator DA?
Comparator General Purpose DTL, MOS, Open-Collector, Open-Emitter, RTL, TTL 8-SOIC
footprint SOIC-8 (6x5x1.75 mm)
pins: 1 EMIT OUT, 2 IN+, 3 IN-, 4 Vcc-, 5 BALANCE, 6 STRB, 7 COL OUT, 8 Vcc+

## LM1085S-3.3
designator DA?
Low Dropout Positive Regulators
footprint TO-263
pins: 1 GND, 2 OUT, 3 IN

## LM2903D
designator DA?
Analog Comparators Dual Diff
footprint SOIC-8 (6x5x1.75 mm)
part A pins: 1 OUT, 2 -, 3 +, 4 -Vs
part B pins: 5 +, 6 -, 7 OUT, 8 +Vs

## LM2904D
designator DA?
Operational Amplifiers - Op Amps Dual Low Power
footprint SOIC-8 (6x5x1.75 mm)
part A pins: 1 OUT, 2 -, 3 +, 4 -Vs
part B pins: 5 +, 6 -, 7 OUT, 8 +Vs

## LM3488
designator DA?
LM3488/-Q1AutomotiveHigh-EfficiencyControllerforBoost,SEPICandFly-BackDC-DC Converters
footprint VSSOP-8
pins: 1 Isen, 2 Comp, 3 FB, 4 Agnd, 5 Pgnd, 6 DR, 7 FA/SD, 8 Vin

## LP2985AIM5-5.7
designator DA?
LDO Voltage Regulators MicroPwr 150mA Lo Noise Ultra LDO Reg
footprint SOT-23-5
pins: 1 Vin, 2 GND, 3 EN, 4 BYPASS, 5 Vout

## LPS6235-683MRC
designator L?  value 68uH  (hidden comment: LPS6235-683MRC)
FIXED IND 68UH 0.9A 0.35OHM SMD
footprint LPS6235-683MRC
pins: 1, 2

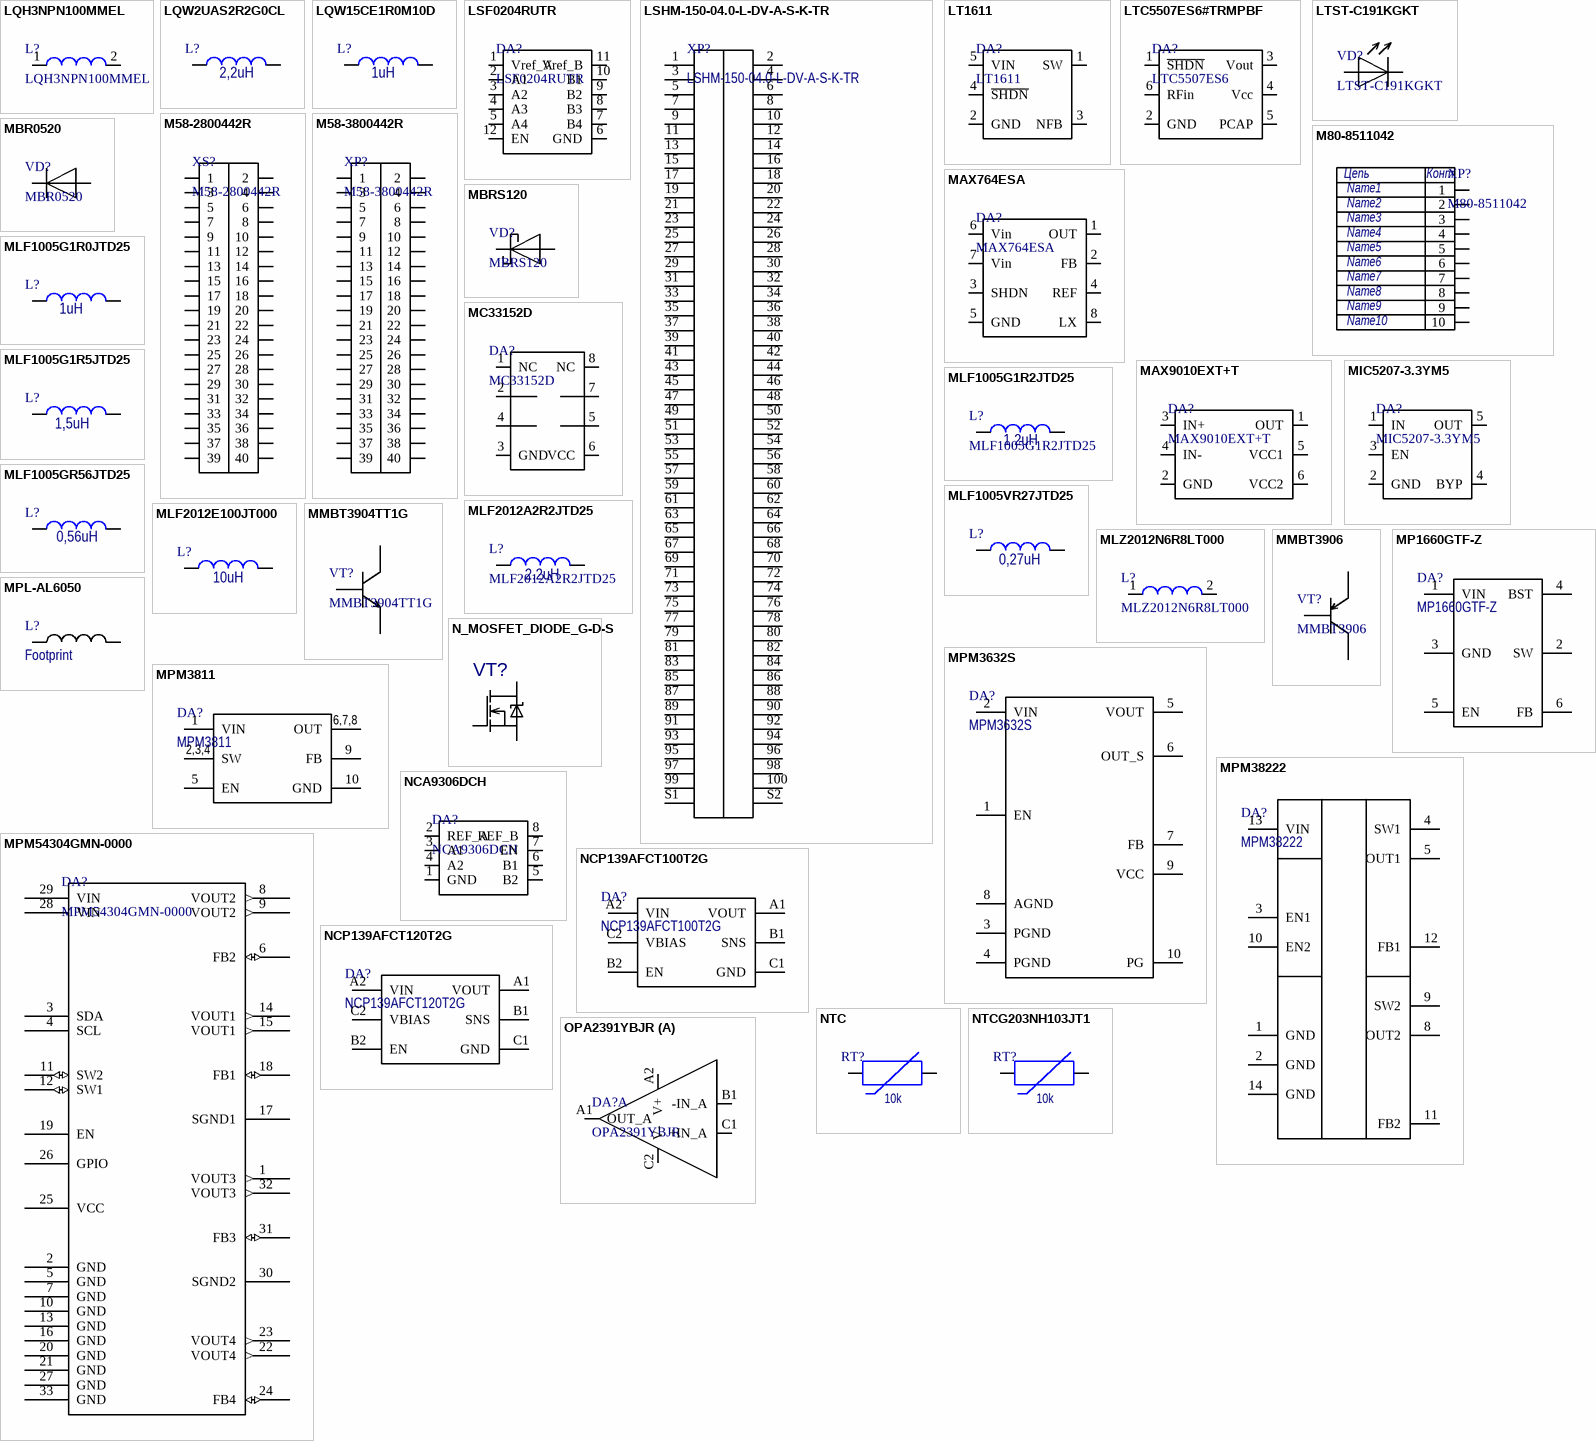
[diagram p4: symbols LQH3NPN100MMEL to OPA2391YBJR]

## LQH3NPN100MMEL
designator L?
800mA 10uH ±20% 810mA 190mΩ SMD,3x3mm Inductors (SMD) ROHS
footprint Inductor 3x3mm
pins: 1, 2

## LQW2UAS2R2G0CL
designator L?  value 2,2uH  (hidden comment: LQW2UAS2R2G0CL)
FIXED IND 2.2UH 280MA 2.8OHM SMD
footprint LQW2UAS2R2G0CL
pins: 1, 2

## LQW15CE1R0M10D
designator L?  value 1uH  (hidden comment: LQW15CE1R0M10D)
135mA 1uH ±20% 480mA 0402  Power Inductors ROHS
footprint LQW15CE1R0M10D
pins: 1, 2

## LSF0204RUTR
designator DA?
LSF0204RUTR Translation - Voltage Levels 4Bit BidirectionalV Lev Transltr 12-UQFN
footprint UQFN12
pins: 1 Vref_A, 2 A1, 3 A2, 4 A3, 5 A4, 6 GND, 7 B4, 8 B3, 9 B2, 10 B1, 11 Vref_B, 12 EN

## LSHM-150-04.0-L-DV-A-S-K-TR
designator XP?
HIGH SPEED HERMAPHRODITIC STRIP
footprint LSHM-150-04.0-L-DV-A-S-K-TR
pins: 1, 2, 3, 4, 5, 6, 7, 8, 9, 10, 11, 12, 13, 14, 15, 16, 17, 18, 19, 20, 21, 22, 23, 24, 25, 26, 27, 28, 29, 30, 31, 32, 33, 34, 35, 36, 37, 38, 39, 40, 41, 42, 43, 44, 45, 46, 47, 48, 49, 50, 51, 52, 53, 54, 55, 56, 57, 58, 59, 60, 61, 62, 63, 64, 65, 66, 67, 68, 69, 70, 71, 72, 73, 74, 75, 76, 77, 78, 79, 80, 81, 82, 83, 84, 85, 86, 87, 88, 89, 90, 91, 92, 93, 94, 95, 96, 97, 98, 99, 100, S1, S2

## LT1611
designator DA?
Inverting 1.4MHz Switching / Regulator in SOT-23
footprint SOT-23-5
pins: 1 SW, 2 GND, 3 NFB, 4 ~{SHDN}, 5 VIN

## LTC5507ES6#TRMPBF
designator DA?, comment LTC5507ES6
RF Detector 100kHz to 1GHz RF Pwr Detector
footprint SOT-23-6
pins: 1 ~{SHDN}, 2 GND, 3 Vout, 4 Vcc, 5 PCAP, 6 RFin

## LTST-C191KGKT
designator VD?
footprint LTST-C191KGKT
pins: A, K

## M58-2800442R
designator XS?
20+20 Pos. Female DIL Vertical SMT Conn. (T+R)
footprint M58-2800442R
pins: 1, 2, 3, 4, 5, 6, 7, 8, 9, 10, 11, 12, 13, 14, 15, 16, 17, 18, 19, 20, 21, 22, 23, 24, 25, 26, 27, 28, 29, 30, 31, 32, 33, 34, 35, 36, 37, 38, 39, 40

## M58-3800442R
designator XP?
20+20 Pos. Male DIL Vertical SMT Conn. (T+R)
footprint M58-3800442R
pins: 1, 2, 3, 4, 5, 6, 7, 8, 9, 10, 11, 12, 13, 14, 15, 16, 17, 18, 19, 20, 21, 22, 23, 24, 25, 26, 27, 28, 29, 30, 31, 32, 33, 34, 35, 36, 37, 38, 39, 40

## M80-8511042
designator XP?  Parameter 8: Name8  Parameter 9: Name9  Parameter 10: Name10  Parameter 7: Name7  Parameter 6: Name6  Parameter 5: Name5  Parameter 4: Name4  Parameter 3: Name3  Parameter 2: Name2  Parameter 1: Name1
Headers & Wire Housings 5+5 POS DIL MALE R/A LATCHED TIN
footprint M80-8511042
pins: 1, 2, 3, 4, 5, 6, 7, 8, 9, 10
text: Цепь; Конт.

## MAX764ESA
designator DA?
High-Efficiency, Low IQ DC-DC Inverters
footprint SOIC-8 (6x5x1.75 mm)
pins: 1 OUT, 2 FB, 3 SHDN, 4 REF, 5 GND, 6 Vin, 7 Vin, 8 LX

## MAX9010EXT+T
designator DA?
IC COMPARATOR 1 GEN PUR SC70-6
footprint SC70
pins: 1 OUT, 2 GND, 3 IN+, 4 IN-, 5 VCC1, 6 VCC2

## MBR0520
designator VD?
20V 600mV@200mA 350mA SOD-123 Schottky Barrier Diodes
footprint SOD-123FA
pins: A, K

## MBRS120
designator VD?
SURFACE MOUNT SCHOTTKY BARRIER DIODE
footprint DO-214AA
pins: 1, 2

## MC33152D
designator DA?
MOSFET Driver, High Speed, Dual
footprint SOIC-8 (6x5x1.75 mm)
pins: 1 NC, 2 IA, 3 GND, 4 IB, 5 OB, 6 VCC, 7 OA, 8 NC

## MIC5207-3.3YM5
designator DA?
Linear Voltage Regulator / 180mA 75dB@(100Hz) Fixed 3.3V Positive 16V SOT-23-5
footprint SOT-23-5
pins: 1 IN, 2 GND, 3 EN, 4 BYP, 5 OUT

## MLF1005G1R0JTD25
designator L?  value 1uH  (hidden comment: MLF1005G1R0JTD25)
RF Inductors - SMD 0402 1.0uH 5% AEC-Q200
footprint MLF1005G1R2JTD25
pins: 1, 2

## MLF1005G1R2JTD25
designator L?  value 1,2uH
RF Inductors - SMD 0402 1.2uH 5% AEC-Q200
footprint MLF1005G1R2JTD25
pins: 1, 2

## MLF1005G1R5JTD25
designator L?  value 1,5uH  (hidden comment: MLF1005G1R5JTD25)
RF Inductors - SMD 0402 1.5uH 5% AEC-Q200
footprint MLF1005G1R2JTD25
pins: 1, 2

## MLF1005GR56JTD25
designator L?  value 0,56uH  (hidden comment: MLF1005GR56JTD25)
RF Inductors - SMD 0402 0.56uH 5% AEC-Q200
footprint MLF1005G1R2JTD25
pins: 1, 2

## MLF1005VR27JTD25
designator L?  value 0,27uH  (hidden comment: MLF1005VR27JTD25)
RF Inductors - SMD 0402 0.27uH 5% AEC-Q200
footprint MLF1005G1R2JTD25
pins: 1, 2

## MLF2012A2R2JTD25
designator L?  value 2.2uH
RF Inductors - SMD 2.2uH 500mohms 50mA +/-5% Fer AEC-Q200
footprint MLF2012A2R2JTD25
pins: 1, 2

## MLF2012E100JT000
designator L?  value 10uH  (hidden comment: MLF2012E100JT000)
RF Inductors - SMD 10uH 800mohms 15mA +/-5% Fer AEC-Q200
footprint MLF2012A2R2JTD25
pins: 1, 2

## MLZ2012N6R8LT000
designator L?
SMD / SMT Inductors
footprint MLZ2012N6R8LT000
pins: 1, 2

## MMBT3904TT1G
designator VT?
GENERAL PURPOSE / AMPLIFIER TRANSISTORS / SURFACE MOUNT
footprint SC75
pins: 1 B, 2 E, 3 C

## MMBT3906
designator VT?
40V 250mW 100@10mA,1V 200mA PNP SOT-23(TO-236) Bipolar Transistors - BJT ROHS
footprint SOT-23-3 t
pins: 1 B, 2 E, 3 C

## MP1660GTF-Z
designator DA?
Switching Voltage Regulators 16V,3A,600kHz
footprint MP1660GTF-Z
pins: 1 VIN, 2 SW, 3 GND, 4 BST, 5 EN, 6 FB

## MPL-AL6050
designator L?, comment Footprint
Low-Profile Molded Inductor; Value: 4,7uH
footprint MPL-AL6050 (Low-Profile Molded Inductor)
pins: 1, 2

## MPM3632S
designator DA?
MPM3632S – SYNCHRONOUS STEP-DOWN MINI-MODULE CONVERTER
footprint EC LGA-10 (3mmx3mmx1.45mm)
pins: 1 EN, 2 VIN, 3 PGND, 4 PGND, 5 VOUT, 6 OUT_S, 7 FB, 8 AGND, 9 VCC, 10 PG

## MPM3811
designator DA?
MPM3811 2.3V - 5.5V Input, 1A Power Module in Small 2x2x1.6mm QFN Package
footprint QFN-10 (2mmx2mmx1.6mm)
pins: 1 VIN, 2 SW, 3 SW, 4 SW, 5 EN, 6 OUT, 7 OUT, 8 OUT, 9 FB, 10 GND
text: 6,7,8; 2,3,4

## MPM38222
designator DA?
Dual 2A, 2.7V-6V, Power Module, Synchronous, Step-Down Converter with Integrated Inductors
footprint QFN-14 (QFN-14 (4mmx4mmx1.6mm))
pins: 1 GND, 2 GND, 3 EN1, 4 SW1, 5 OUT1, 8 OUT2, 9 SW2, 10 EN2, 11 FB2, 12 FB1, 13 VIN, 14 GND

## MPM54304GMN-0000
designator DA?
4V to 16V Input, Quad-utput Power Module with I2C and MTP; Mfr_Name: Monolithic Power Systems; Copyright: Copyright (C) 2022 Ultra Librarian. All rights reserved.; Manufacturer_Part_Number: MPM54304GMN-0000; RefDes: RefDes; Type: DEV
footprint LGA7x7x2_MNP
pins: 1 VOUT3 (out), 2 GND, 3 SDA, 4 SCL, 5 GND, 6 FB2 (io), 7 GND, 8 VOUT2 (out), 9 VOUT2 (out), 10 GND, 11 SW2 (io), 12 SW1 (io), 13 GND, 14 VOUT1 (out), 15 VOUT1 (out), 16 GND, 17 SGND1, 18 FB1 (io), 19 EN, 20 GND, 21 GND, 22 VOUT4 (out), 23 VOUT4 (out), 24 FB4 (io), 25 VCC (power), 26 GPIO, 27 GND, 28 VIN, 29 VIN, 30 SGND2, 31 FB3 (io), 32 VOUT3 (out), 33 GND

## N_MOSFET_DIODE_G-D-S
designator VT?
N_MOSFET_DIODE_G-D-S; Component_ID: *
footprint TSDSON-8
pins: 1, 2, 3, 4, 5, 6, 7, 8

## NCA9306DCH
designator DA?
Voltage Level Translator Bidirectional 1 Circuit 2 Channel 100MHz 8-VSSOP
footprint VSSOP-8
pins: 1 GND, 2 REF_A, 3 A1, 4 A2, 5 B2, 6 B1, 7 EN, 8 REF_B

## NCP139AFCT100T2G
designator DA?
LDO Regulator 1V0 - Very Low / Dropout, CMOS, Bias Rail / 1 A
footprint WLCSP6 (1.20x0.80)
pins: A1 VOUT, A2 VIN, B1 SNS, B2 EN, C1 GND, C2 VBIAS

## NCP139AFCT120T2G
designator DA?
LDO Regulator 1V2 - Very Low / Dropout, CMOS, Bias Rail / 1 A
footprint WLCSP6 (1.20x0.80)
pins: A1 VOUT, A2 VIN, B1 SNS, B2 EN, C1 GND, C2 VBIAS

## NTC
designator RT?, comment value 10k  (hidden comment: 0,1 W-10 кОм ±1%)
0.1 W-10 кОм ±1%
footprint NTC
pins: 1, 2

## NTCG203NH103JT1
designator RT?, comment value 10k  (hidden comment: 10kΩ 200mW ±5% 3590K ±3% 0805 NTC)
10kΩ 200mW ±5% 3590K ±3% 0805 NTC Thermistors ROHS
footprint NTCG203NH103JT1
pins: 1, 2

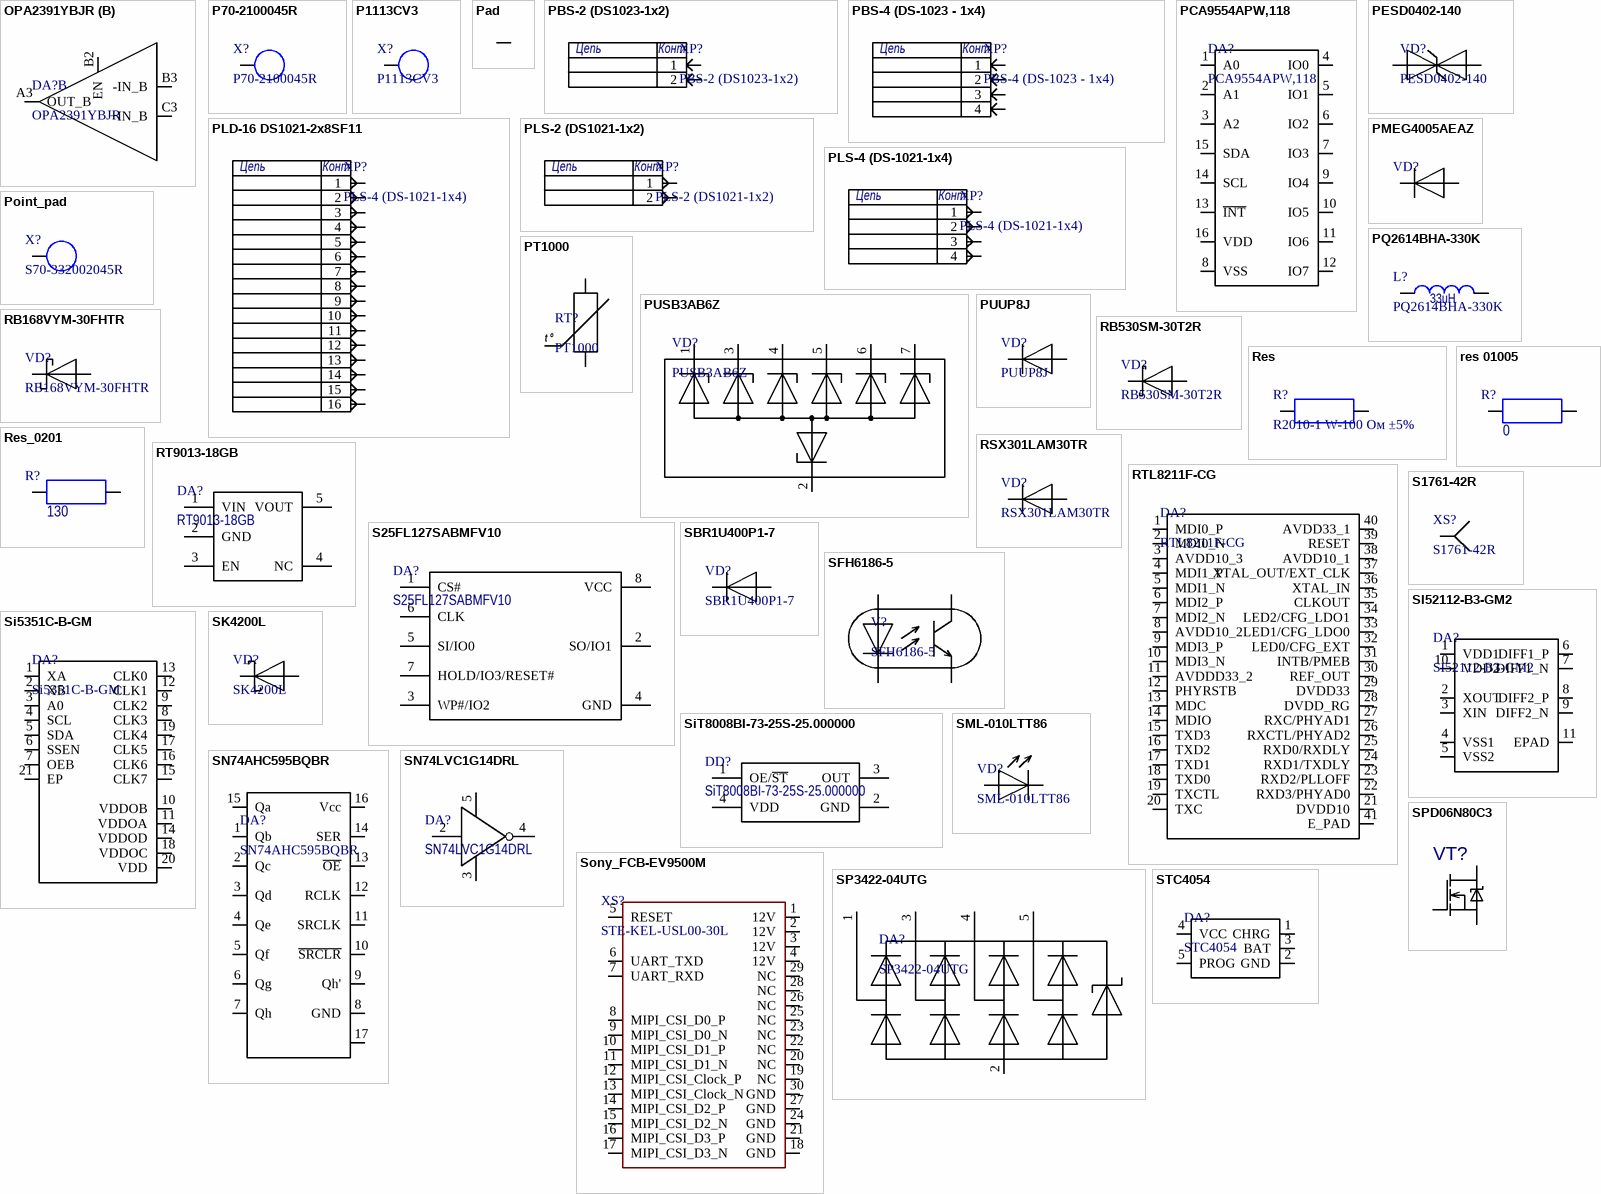
[diagram p5: symbols OPA2391YBJR to STC4054]

## OPA2391YBJR
designator DA?
General Purpose Amplifier 2 Circuit Push-Pull, Rail-to-Rail 9-DSBGA (1.16x1.16)
footprint DSBGA-0.35mm
part A pins: A1 OUT_A, A2 V+, B1 -IN_A, C1 +IN_A, C2 V-
part B pins: A3 OUT_B, B2 EN, B3 -IN_B, C3 +IN_B

## P70-2100045R
designator X?
Pogo-pin P70-2100045R
footprint P70-2100045R
pins: 1

## P1113CV3
designator X?
Pogo-pin P1113CV3
footprint P1113CV3
pins: 1

## Pad
designator XS?  (value not drawn)  (no BOM)
footprint Pad
pins: 1

## PBS-2 (DS1023-1x2)
designator XP?
Гнездо на плату 2.54мм 1х2pin прямое
footprint PBS-2 (DS-1023 - 1x2) (2 point header)
pins: 1, 2
text: Цепь; Конт.

## PBS-4 (DS-1023 - 1x4)
designator XP?
Гнездо на плату 2.54мм 1х4pin прямое
footprint PBS-4 (DS-1023 - 1x4) (4 point header)
pins: 1, 2, 3, 4
text: Цепь; Конт.

## PCA9554APW,118
designator DA?
8-bit I2C-bus and SMBus I/O port with interrupt
footprint TSSOP16
pins: 1 A0, 2 A1, 3 A2, 4 IO0, 5 IO1, 6 IO2, 7 IO3, 8 VSS, 9 IO4, 10 IO5, 11 IO6, 12 IO7, 13 ~{INT}, 14 SCL, 15 SDA, 16 VDD

## PESD0402-140
designator VD?
40V Clamp Ipp Tvs Diode Surface Mount 0402
footprint PESD0402-140
pins: 1, 2

## PLD-16 DS1021-2x8SF11
designator XP?, comment PLS-4 (DS-1021-1x4)
Вилка штыревая 2.54мм 1x4pin прямая
footprint PLD-16 DS1021-2x8SF11
pins: 1, 2, 3, 4, 5, 6, 7, 8, 9, 10, 11, 12, 13, 14, 15, 16
text: Цепь; Конт.

## PLS-2 (DS1021-1x2)
designator XP?
Вилка штыревая 2.54мм 1x2pin прямая
footprint PLS-2 (DS1021-1x2) (2 point header)
pins: 1, 2
text: Цепь; Конт.

## PLS-4 (DS-1021-1x4)
designator XP?
Вилка штыревая 2.54мм 1x4pin прямая
footprint PLS-4 (DS-1021-1x4) (4 point header)
pins: 1, 2, 3, 4
text: Цепь; Конт.

## PMEG4005AEAZ
designator VD?  (value not drawn)
DIODE SCHOTTKY 40V 500MA SOD323
footprint SOD323
pins: A, K

## Point_pad
designator X?, comment S70-332002045R
footprint Point_pad
pins: 1

## PQ2614BHA-330K
designator L?  value 33uH
Power Inductors - SMD 33uH 10% 30A AEC-Q200 GULL WING
footprint PQ2614BHA-330K
pins: 1, 2

## PT1000
designator RT?
pins: 1, 2
text: o; t

## PUSB3AB6Z
designator VD?
ESD protection
footprint PUSB3AB6Z (1,1x2,1x0,5 mm)
pins: 1, 2, 3, 4, 5, 6, 7

## PUUP8J
designator VD?
Rectifiers 25ns, 8A, 600V, Ultra Fast Recovery Rectifier
footprint TO-277A (SMPC4.6U)
pins: A, K

## RB168VYM-30FHTR
designator VD?
Schottky Diodes & Rectifiers 30V Vr 1A Io SBD SOD-323HE 1A
footprint SOD-323HE
pins: A 2, C 1

## RB530SM-30T2R
designator VD?
DIODE SCHOTTKY 30V 200MA EMD2
footprint SOD-523
pins: A, C

## Res
designator R?, comment R2010-1 W-100 Ом ±5%
Value: 100
footprint Res_1210
footprint res_2512
pins: 1, 2

## res 01005
designator R?, comment value 0  (hidden comment: R01005-0 Ом±0.1%)
RES 0 OHM  01005 SMD
footprint RESC_01005
pins: 1, 2

## Res_0201
designator R?, comment value 130  (hidden comment: R0201-0,005-130 Ом±0.1%)
RES 130 OHM 1/20W 0.1% 0201 SMD
footprint RES_0201
pins: 1, 2

## RSX301LAM30TR
designator VD?
Schottky Rectifier, 30 V, 3 A, Single, SOD-128, 2 Pins, 420 mV
footprint SOD-128
pins: A, K

## RT9013-18GB
designator DA?
500mA, Low Dropout, Low Noise Ultra-Fast Without / Bypass Capacitor CMOS LDO Regulator
footprint SOT-23-5
pins: 1 VIN, 2 GND, 3 EN, 4 NC, 5 VOUT

## RTL8211F-CG
designator DA?
Integrated 10/100/1000 Gigabit Ethernet TransceiverЈ¬Supports IEEE 802.3az-2010,
footprint QFN-40 5x5
pins: 1 MDI0_P, 2 MDI0_N, 3 AVDD10_3, 4 MDI1_P, 5 MDI1_N, 6 MDI2_P, 7 MDI2_N, 8 AVDD10_2, 9 MDI3_P, 10 MDI3_N, 11 AVDDD33_2, 12 PHYRSTB, 13 MDC, 14 MDIO, 15 TXD3, 16 TXD2, 17 TXD1, 18 TXD0, 19 TXCTL, 20 TXC, 21 DVDD10, 22 RXD3/PHYAD0, 23 RXD2/PLLOFF, 24 RXD1/TXDLY, 25 RXD0/RXDLY, 26 RXCTL/PHYAD2, 27 RXC/PHYAD1, 28 DVDD_RG, 29 DVDD33, 30 REF_OUT, 31 INTB/PMEB, 32 LED0/CFG_EXT, 33 LED1/CFG_LDO0, 34 LED2/CFG_LDO1, 35 CLKOUT, 36 XTAL_IN, 37 XTAL_OUT/EXT_CLK, 38 AVDD10_1, 39 RESET, 40 AVDD33_1, 41 E_PAD

## S25FL127SABMFV10
designator DA?
NOR Flash Nor
footprint 8-SOIC  (HEIGHT 2.5MM) (8-SOIC (0.154", 3.90mm Width))
pins: 1 CS#, 2 SO/IO1, 3 WP#/IO2, 4 GND, 5 SI/IO0, 6 CLK, 7 HOLD/IO3/RESET#, 8 VCC

## S1761-42R
designator XS?
3.50mm SMT Spring Contact
footprint S1761-42R (3.50mm SMT Spring Contact)
pins: 1

## SBR1U400P1-7
designator VD?
Schottky Diodes & Rectifiers SBRULTRA LOW VF 1A400V
footprint PowerDI123
pins: A, K

## SFH6186-5
designator V?
Optocoupler, Phototransistor Output, Low Input Current
footprint SFH6186
pins: A, C, E, K

## Si5351C-B-GM
designator DA?
Clock Generator IC 200MHz 1 20-VFQFN Exposed Pad
footprint QFN-20
pins: 1 XA, 2 XB, 3 A0, 4 SCL, 5 SDA, 6 SSEN, 7 OEB, 8 CLK3, 9 CLK2, 10 VDDOB, 11 VDDOA, 12 CLK1, 13 CLK0, 14 VDDOD, 15 CLK7, 16 CLK6, 17 CLK5, 18 VDDOC, 19 CLK4, 20 VDD, 21 EP

## SI52112-B3-GM2
designator DA?
Clock Generators & Support Products 2-output PCIe Gen 2 clock generator
footprint TDFN-10
pins: 1 VDD1, 2 XOUT, 3 XIN, 4 VSS1, 5 VSS2, 6 DIFF1_P, 7 DIFF1_N, 8 DIFF2_P, 9 DIFF2_N, 10 VDD2, 11 EPAD

## SiT8008BI-73-25S-25.000000
designator DD?
Standard Clock Oscillators -40 to 85C, 2016, 50ppm, 2.5V, 25MHz, ST,
footprint 4L_PQFN (2.0X2.5X0.75 mm)
pins: 1 OE/~{ST}, 2 GND, 3 OUT, 4 VDD

## SK4200L
designator VD?
Schottky Diodes & Rectifiers 200V, 4A
footprint SMC
pins: A, K

## SML-010LTT86
designator VD?
LED RED CLEAR 3020 SMD
footprint SML-010LTT86
pins: A, K

## SN74AHC595BQBR
designator DA?
SN74AHC595 8-Bit Shift Registers With 3-State Output Registers
footprint WQFN-16
pins: 1 Qb, 2 Qc, 3 Qd, 4 Qe, 5 Qf, 6 Qg, 7 Qh, 8 GND, 9 Qh', 10 ~{SRCLR}, 11 SRCLK, 12 RCLK, 13 ~{OE}, 14 SER, 15 Qa, 16 Vcc, 17

## SN74LVC1G14DRL
designator DA?
Inverters Single Schmitt-Trig Inverter
footprint 5-Pin SOT-5X3
pins: 2 A, 3 GND, 4 Y, 5 VCC

## Sony_FCB-EV9500M
designator XS?, comment STE-KEL-USL00-30L
footprint STE-KEL-USL00-30L
pins: 1 12V, 2 12V, 3 12V, 4 12V, 5 RESET, 6 UART_TXD, 7 UART_RXD, 8 MIPI_CSI_D0_P, 9 MIPI_CSI_D0_N, 10 MIPI_CSI_D1_P, 11 MIPI_CSI_D1_N, 12 MIPI_CSI_Clock_P, 13 MIPI_CSI_Clock_N, 14 MIPI_CSI_D2_P, 15 MIPI_CSI_D2_N, 16 MIPI_CSI_D3_P, 17 MIPI_CSI_D3_N, 18 GND, 19 NC, 20 NC, 21 GND, 22 NC, 23 NC, 24 GND, 25 NC, 26 NC, 27 GND, 28 NC, 29 NC, 30 GND

## SP3422-04UTG
designator DA?
16.7V (Typ) Clamp 2A (8/20µs) Ipp Tvs Diode Surface Mount 5-DFN (1x0.6)
footprint SP3422-04UTG
pins: 1, 2, 3, 4, 5

## SPD06N80C3
designator VT?  (value not drawn)
CoolMOS PowerTransistor N; Component_ID: *
footprint PG-TO252-3
pins: 1, 2, 3

## STC4054
designator DA?
800mA Standalone linear Li-Ion / Battery charger with thermal regulation
footprint SOT-23-5
pins: 1 CHRG, 2 GND, 3 BAT, 4 VCC, 5 PROG

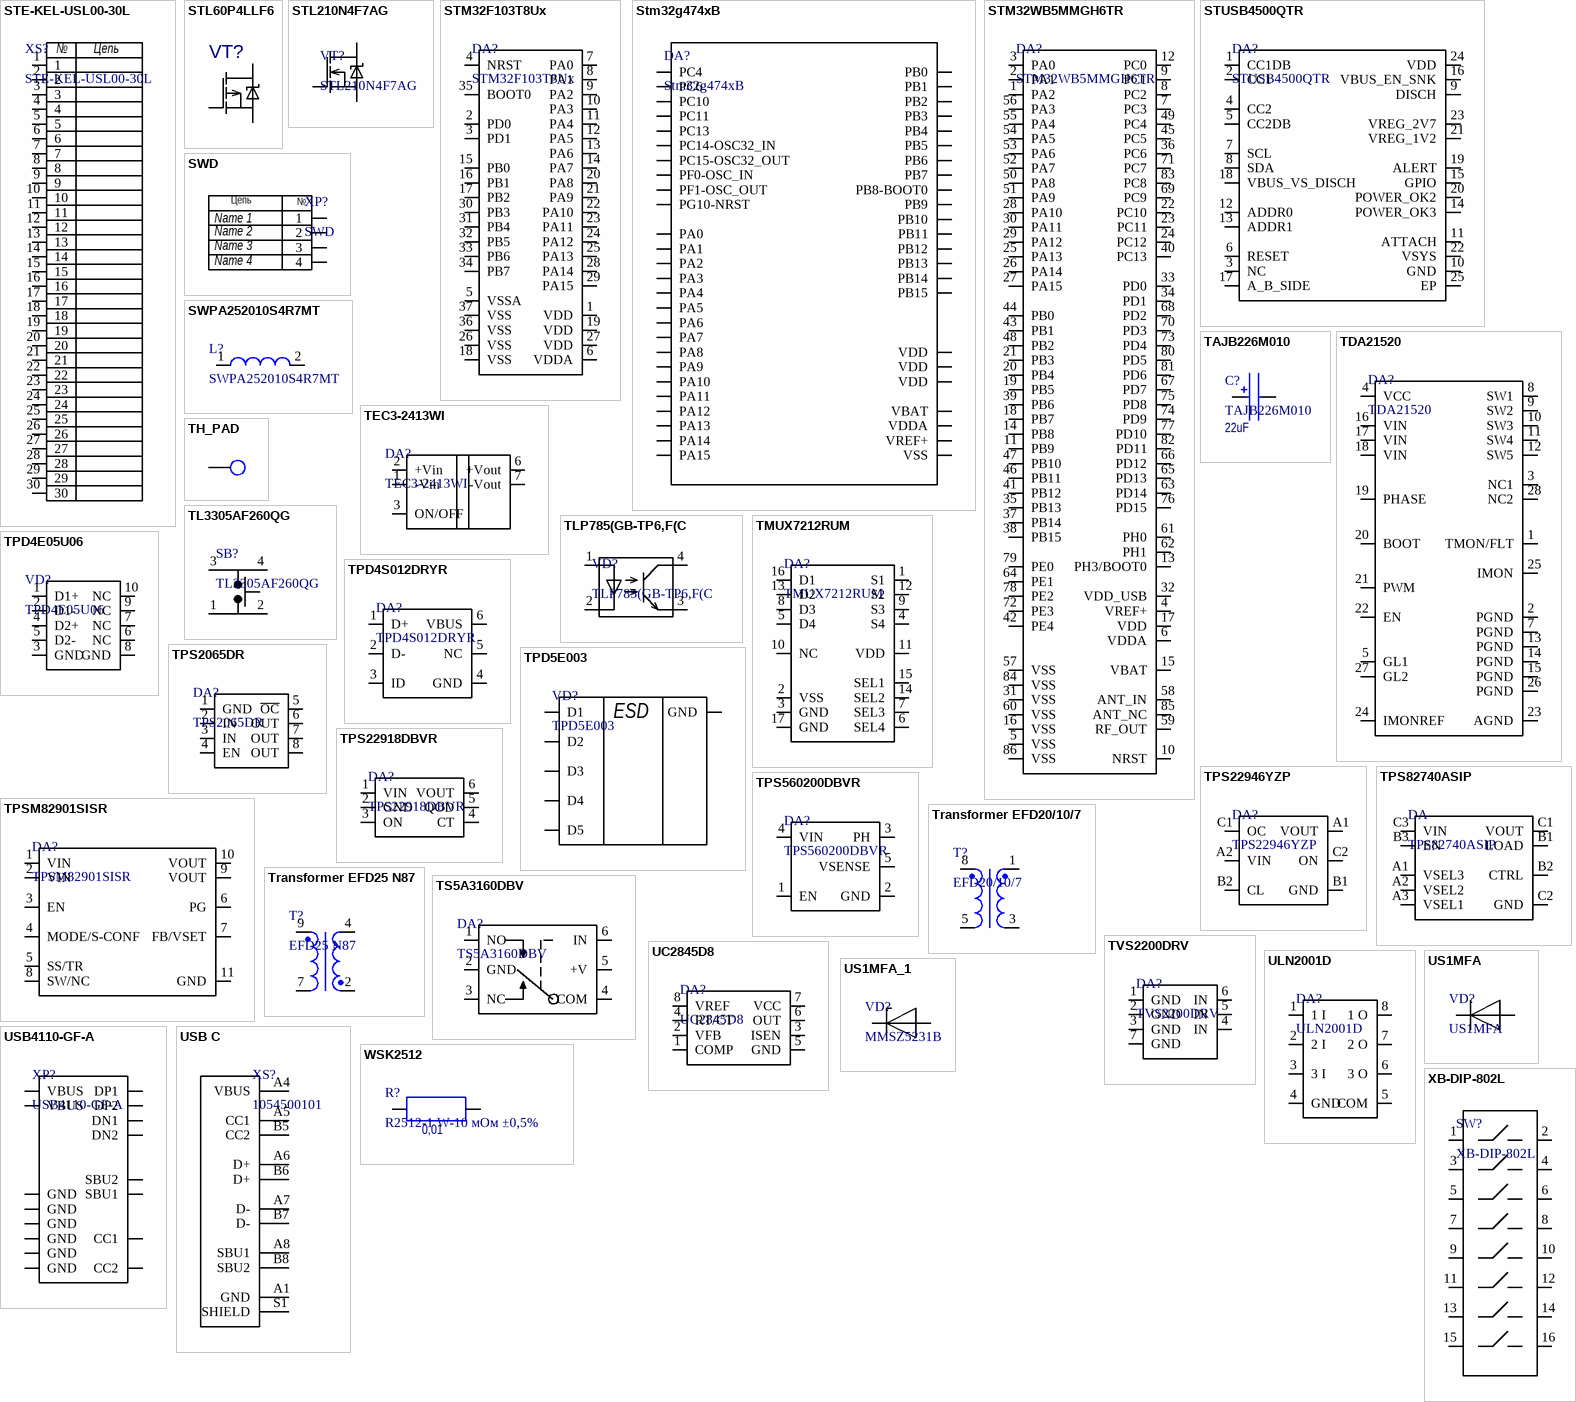
[diagram p6: symbols STE-KEL-USL00-30L to XB-DIP-802L]

## STE-KEL-USL00-30L
designator XS?
footprint STE-KEL-USL00-30L
pins: 1, 2, 3, 4, 5, 6, 7, 8, 9, 10, 11, 12, 13, 14, 15, 16, 17, 18, 19, 20, 21, 22, 23, 24, 25, 26, 27, 28, 29, 30
text: №; Цепь

## STL60P4LLF6
designator VT?  (value not drawn)
P-channel 40 V, 11.5 mΩ typ., 60 A STripFET F6 Power MOSFET / in a PowerFLAT 5x6 package; Component_ID: *
footprint DFN 5X6
pins: 1 S, 4 G, 5 D

## STL210N4F7AG
designator VT?
40V 120A 150W 1.6mΩ@16A,10V 4V@250uA 1PCSNChannel PowerFLAT-8(5x6) MOSFETs ROHS
footprint DFN 5X6
pins: 1 S, 4 G, 5 D

## STM32F103T8Ux
designator DA?
Medium-density performance line Arm®-based 32-bit MCU with 64 or 128 KB Flash, USB, CAN, 7 timers, 2 ADCs, 9 com. interfaces
footprint VFQFPN36
pins: 1 VDD, 2 PD0, 3 PD1, 4 NRST, 5 VSSA, 6 VDDA, 7 PA0, 8 PA1, 9 PA2, 10 PA3, 11 PA4, 12 PA5, 13 PA6, 14 PA7, 15 PB0, 16 PB1, 17 PB2, 18 VSS, 19 VDD, 20 PA8, 21 PA9, 22 PA10, 23 PA11, 24 PA12, 25 PA13, 26 VSS, 27 VDD, 28 PA14, 29 PA15, 30 PB3, 31 PB4, 32 PB5, 33 PB6, 34 PB7, 35 BOOT0, 36 VSS, 37 VSS

## Stm32g474xB
designator DA?
footprint UFQFPN48
pins: 1 VBAT, 2 PC13, 3 PC14-OSC32_IN, 4 PC15-OSC32_OUT, 5 PF0-OSC_IN, 6 PF1-OSC_OUT, 7 PG10-NRST, 8 PA0, 9 PA1, 10 PA2, 11 PA3, 12 PA4, 13 PA5, 14 PA6, 15 PA7, 16 PC4, 17 PB0, 18 PB1, 19 PB2, 20 VREF+, 21 VDDA, 22 PB10, 23 VDD, 24 PB11, 25 PB12, 26 PB13, 27 PB14, 28 PB15, 29 PC6, 30 PA8, 31 PA9, 32 PA10, 33 PA11, 34 PA12, 35 VDD, 36 PA13, 37 PA14, 38 PA15, 39 PC10, 40 PC11, 41 PB3, 42 PB4, 43 PB5, 44 PB6, 45 PB7, 46 PB8-BOOT0, 47 PB9, 48 VDD, 49 VSS

## STM32WB5MMGH6TR
designator DA?
802.15.4, Bluetooth Bluetooth v5.0, Thread, Zigbee® Transceiver Module 2.4GHz Integrated, Chip Surface Mount
footprint STM32WB5MMGH6TR
pins: 1 PA2, 2 PA1, 3 PA0, 4 VREF+, 5 VSS, 6 VDDA, 7 PC3, 8 PC2, 9 PC1, 10 NRST, 11 PB9, 12 PC0, 13 PH3/BOOT0, 14 PB8, 15 VBAT, 16 VSS, 17 VDD, 18 PB7, 19 PB5, 20 PB4, 21 PB3, 22 PC10, 23 PC11, 24 PC12, 25 PA13, 26 PA14, 27 PA15, 28 PA10, 29 PA12, 30 PA11, 31 VSS, 32 VDD_USB, 33 PD0, 34 PD1, 35 PB13, 36 PC6, 37 PB14, 38 PB15, 39 PB6, 40 PC13, 41 PB12, 42 PE4, 43 PB1, 44 PB0, 45 PC5, 46 PB11, 47 PB10, 48 PB2, 49 PC4, 50 PA8, 51 PA9, 52 PA7, 53 PA6, 54 PA5, 55 PA4, 56 PA3, 57 VSS, 58 ANT_IN, 59 RF_OUT, 60 VSS, 61 PH0, 62 PH1, 63 PD14, 64 PE1, 65 PD13, 66 PD12, 67 PD7, 68 PD2, 69 PC9, 70 PD3, 71 PC7, 72 PE3, 73 PD4, 74 PD9, 75 PD8, 76 PD15, 77 PD10, 78 PE2, 79 PE0, 80 PD5, 81 PD6, 82 PD11, 83 PC8, 84 VSS, 85 ANT_NC, 86 VSS

## STUSB4500QTR
designator DA?
Standalone USB PD sink controller with short-to-VBUS protections
footprint QFN-24 (4X4)
pins: 1 CC1DB, 2 CC1, 3 NC, 4 CC2, 5 CC2DB, 6 RESET, 7 SCL, 8 SDA, 9 DISCH, 10 GND, 11 ATTACH, 12 ADDR0, 13 ADDR1, 14 POWER_OK3, 15 GPIO, 16 VBUS_EN_SNK, 17 A_B_SIDE, 18 VBUS_VS_DISCH, 19 ALERT, 20 POWER_OK2, 21 VREG_1V2, 22 VSYS, 23 VREG_2V7, 24 VDD, 25 EP

## SWD
designator XP?  Parameter 4: Name 4  Parameter 3: Name 3  Parameter 2: Name 2  Parameter 1: Name 1
footprint SWD
pins: 1, 2, 3, 4
text: Цепь; №

## SWPA252010S4R7MT
designator L?
760mA 4.7uH ±20% 1.15A 1008 Power Inductors ROHS
footprint INDUCTOR 25x20
pins: 1, 2

## TAJB226M010
designator C?  value 22uF
22uF 10V 2.4Ω@100kHz ±20% CASE-B-3528 Tantalum Capacitors
footprint CASE B
pins: 1, 2

## TDA21520
designator DA?
footprint TDA21520
pins: 1 TMON/FLT, 2 PGND, 3 NC1, 4 VCC, 5 GL1, 7 PGND, 8 SW1, 9 SW2, 10 SW3, 11 SW4, 12 SW5, 13 PGND, 14 PGND, 15 PGND, 16 VIN, 17 VIN, 18 VIN, 19 PHASE, 20 BOOT, 21 PWM, 22 EN, 23 AGND, 24 IMONREF, 25 IMON, 26 PGND, 27 GL2, 28 NC2

## TEC3-2413WI
designator DA?
Isolated DC/DC Converters - Through Hole 3W 9-36Vin 15V 200mA SIP8 Iso Reg
footprint SIP8
pins: 1 -Vin, 2 +Vin, 3 ON/OFF, 6 +Vout, 7 -Vout

## TH_PAD
designator *  (value not drawn)
footprint Pad
pins: 1

## TL3305AF260QG
designator SB?
Tactile Switch SPST-NO Top Actuated Surface Mount
footprint TL3305AF260QG
pins: 1, 2, 3, 4